# Altium integrated library CM5_library.IntLib: 236 symbols (part 2 of 5)
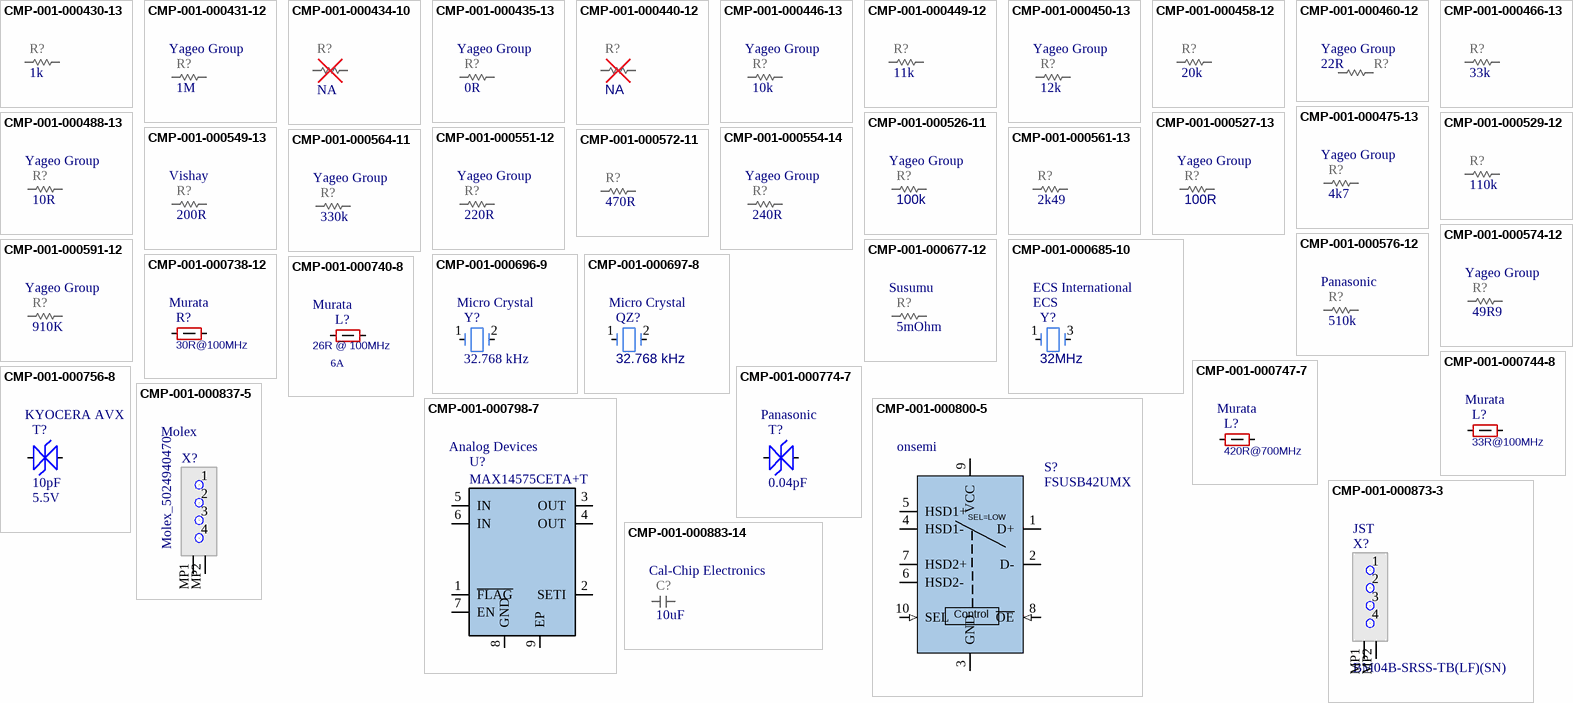
[diagram p13: symbols CMP-001-000430-13 to CMP-001-000883-14]

## CMP-001-000744-8
designator L?, comment value 33R@100MHz  Manufacturer: Murata  (hidden comment: FERRITE_0201_BLM03_33Ohm)
FERRITE; Part Number: BLM03PG330SN1; Manufacturer Part Number: BLM03PG330SN1D; Tolerance: 25%; Sort order: 362; HasBeenBuilt: TBD; System: Discrete; Current: 750mA; Package: 0201; Operating temperature range: -55 ... +125C; ClassName: SMALL; ComponentLink1Description: 1_Datasheet; ComponentLink1URL: https://www.murata.com/en-us/products/productdetail.aspx?cate=luNoiseSupprFilteChipFerriBead&partno=BLM03PG330SN1%23; ComponentLink2Description: 2_Product page; ComponentLink3Description: 3_X-information; ComponentLink4Description: 4_X-information; Creation date: 20200304; Source: Discrete_UN1Q.SchLib; Component Type: Ferrite
footprint IND_0201_UN1Q (Chip Resistor, 0.6x0.3mm, IPC High Density)
pins: 1, 2

## CMP-001-000747-7
designator L?, comment value 420R@700MHz  Manufacturer: Murata  (hidden comment: FERRITE_0201_BLF_700MHz_420Ohm)
FERRITE; Part Number: BLF03JD421GZE; Manufacturer Part Number: BLF03JD421GZED; Tolerance: 25%; Sort order: 362; HasBeenBuilt: False; System: Discrete; Package: 0201; Operating temperature range: -55 ... +125C; ComponentLink1Description: 1_Datasheet; ComponentLink2Description: 2_Product page; ComponentLink3Description: 3_X-information; ComponentLink4Description: 4_X-information; Creation date: 20200304; ClassName: SMALL; Source: Discrete_UN1Q.SchLib; Component Type: Ferrite
footprint IND_0201_UN1Q (Chip Resistor, 0.6x0.3mm, IPC High Density)
pins: 1, 2

## CMP-001-000756-8
designator T?, comment value 10pF  Voltage: 5.5V  Manufacturer: KYOCERA AVX  (hidden comment: TVS_0201_10pF)
ESD Protection  TVS Diodes SMP Diode 0201 5vdc 10 pf <8v clamp@1a; Part Number: GG020105100N2P; Sort order: 402; System: Discrete; Package: 0201; Operating temperature range: -40 ... +85C; ComponentLink1Description: 1_Datasheet; ComponentLink1URL: https://www2.mouser.com/datasheet/2/40/AVX_GiGuard-1101674.pdf; ComponentLink2Description: 2_Product page; ComponentLink3Description: 3_X-information; ComponentLink4Description: 4_X-information; Creation date: 20211207; ClassName: SMALL; Manufacturer Part Number: GG020105100N2P; Component Type: ESD & EMI
footprint TVS_0201_EZAEG (TVS 0201 0.04pF Panasonic EZAEG1A)
pins: 1, 2

## CMP-001-000774-7
designator T?, comment value 0.04pF  Manufacturer: Panasonic  (hidden comment: TVS_0201_004_EZAEG1N)
ESD Protection Panasonic EZAEG1N50AC; Manufacturer Part Number: EZA-EG1N50AC; Voltage: 30V; Sort order: 402; HasBeenBuilt: False; System: Discrete; Part Number: EZAEG1N50AC; Package: 0201; Operating temperature range: -55C ... +125C; Dimensions WxLxH: 0.33 mm x 0.63mm x 0.26mm; ComponentLink1Description: 1_Datasheet; ComponentLink1URL: https://industrial.panasonic.com/ww/products/pt/esd-suppressor/models/EZAEG1N50AC; ComponentLink2Description: 2_Product page; ComponentLink3Description: 3_X-information; ComponentLink4Description: 4_X-information; Creation date: 17102023; ClassName: SMALL; Source: Discrete_UN1Q.SchLib; Component Type: ESD & EMI
footprint TVS_0201_EZAEG (TVS 0201 0.04pF Panasonic EZAEG1A)
pins: 1, 2

## CMP-001-000798-7
designator U?, comment Part Number: MAX14575CETA+T  Manufacturer: Analog Devices  (hidden comment: MAX14575C)
ADJ. CURRENT-LIMITED POWER SWITCH, 2.5A; Manufacturer: Maxim Integrated; System: IC; HasBeenBuilt: SleeveIO_01; Sort order: 457; ClassName: BIG; Dimensions WxLxH: 2.05 mm x 2.05 mm x 0.8 mm; ComponentLink4Description: 4_X-information; Design Item ID: MAX14575C; Operating temperature range: -40 ... +85 °C; ComponentLink3Description: 3_X-information; Package: TDFN8; ComponentLink1URL: https://www.analog.com/media/en/technical-documentation/data-sheets/MAX14575A-MAX14575C.pdf; ComponentLink1Description: 1_Datasheet; ComponentLink2Description: 2_Product page; ComponentLink2URL: https://www.analog.com/en/products/max14575c.html; Creation date: 20211018; Source: IC_UN1Q.SchLib; Manufacturer Part Number: MAX14575CETA+T; Component Type: Power Supply
footprint TDFN8-MAX14575C (TDFN8 for MAX14575C, 2.05mm(L) x 2.05mm(W) x 0.80mm(H))
pins: 1 ~{FLAG}, 2 SETI, 3 OUT, 4 OUT, 5 IN, 6 IN, 7 EN, 8 GND, 9 EP "Exposed PAD"

## CMP-001-000800-5
designator S?, comment Manufacturer: onsemi  (hidden comment: FSUSB42UMX)
USB2.0 Switch; HasBeenBuilt: SleeveIO_01; Sort order: 501; System: IC; ComponentLink1Description: 1_Datasheet; ComponentLink1URL: https://www.onsemi.com/pub/Collateral/FSUSB42-D.PDF; ComponentLink2Description: 2_Product page; ComponentLink2URL: https://www.onsemi.com/products/interfaces/analog-switches/fsusb42; ComponentLink3Description: 3_X-information; ComponentLink4Description: 4_X-information; Creation date: 20210901; Dimensions WxLxH: 1.4x1.8x0.55mm; Manufacturer: ONSEMI; Operating temperature range: -40 ... +85 °C; Package: UMLP10; Part Number: FSUSB42UMX; Design Item ID: FSUSB42UMX; ECCN: EAR99; Source: IC_UN1Q.SchLib; RoHS: RoHS3; Manufacturer Part Number: FSUSB42UMX; Component Type: Integrated Circuit
footprint UMLP10P40_140X180X55 (UMLP 10 pin pitch 0.4)
pins: 1 D+, 2 D-, 3 GND (power), 4 HSD1-, 5 HSD1+, 6 HSD2-, 7 HSD2+, 8 ~{OE} (in), 9 VCC (power), 10 SEL (in)
text: SEL=LOW; Control

## CMP-001-000837-5
designator X?, comment Molex_5024940470  Manufacturer: Molex
PCB Header, 4 Pins, Vertical, 2.00mm Pitch, CLICK-Mate RA; Manufacturer Part Number: 502494-0470; Sort order: 111; System: Connector; Part Number: 5024940470; ClassName: BIG; Operating temperature range: -40 ... +105 °C; ComponentLink1Description: 1_Datasheet; ComponentLink1URL: https://www.molex.com/molex/products/part-detail/pcb_receptacles/5024940470; Creation date: 20240201; Dimensions WxLxH: 6.85x12x7.45; Design Item ID: Molex_5024940470; Source: UUDET_KOMPONENTIT.SchLib; ECCN: EAR99; ComponentLink4Description: 4_X-information; RoHS: RoHS3; ComponentLink3Description: 3_X-information; ComponentLink2Description: 2_Product page; Component Type: Header
footprint Molex_5024940470 (PCB Header, 4 Pins, 2.00mm Pitch RA)
pins: 1, 2, 3, 4, MP1, MP2

## CMP-001-000873-3
designator X?, comment BM04B-SRSS-TB(LF)(SN)  Manufacturer: JST
JST SH Connector, Header, 4 pin, Vertical, Pitch 1.0 mm; Sort order: 111; HasBeenBuilt: Cmod2_01; ClassName: BIG; Operating temperature range: -25 ... +85 °C; ComponentLink1Description: 1_Datasheet; ComponentLink1URL: https://www.jst-mfg.com/product/pdf/eng/eSH.pdf; Part Number: BM04B-SRSS-TB(LF)(SN); Creation date: 20230301; Dimensions WxLxH: 3.6x6.0x6.3mm; System: Connector; Source: UUDET_KOMPONENTIT.SchLib; Design Item ID: SH-Connector_BM04B-SRSS-TB(LF)(SN); ComponentLink2Description: 2_Product page; ComponentLink3Description: 3_X-information; ComponentLink4Description: 4_X-information; Manufacturer Part Number: BM04B-SRSS-TB(LF)(SN); Component Type: Connector
footprint BM04B-SRSS-TB(LF)(SN) (JST SH Connector, 4 pin, Vertical, Pitch 1.0mm)
pins: 1, 2, 3, 4, MP1, MP2

## CMP-001-000883-14
designator C?, comment value 10uF  Manufacturer: Cal-Chip Electronics  (hidden comment: CAP_0402_10u_X6S)
CAP; Part Number: GMC04X6S106M6R3NT; Manufacturer: Cal-Chip Electronics, Inc.; Temperature characteristics: X6S; Voltage: 6.3V; Tolerance: +/-20%; Sort order: 304; HasBeenBuilt: TBD; Alternative component: Allowed; System: RLC; Package: 0402; ComponentLink1Description: 1_Datasheet; ComponentLink2Description: 2_Product page; ComponentLink3Description: 3_X-information; ComponentLink4Description: 4_X-information; Creation date: 26042024; Manufacturer Part Number: GMC04X6S106M6R3NT; Component Type: Capacitor
footprint CAP_0402_H09W07_UN1Q (Chip Capacitor 0402 BIG)
pins: 1, 2

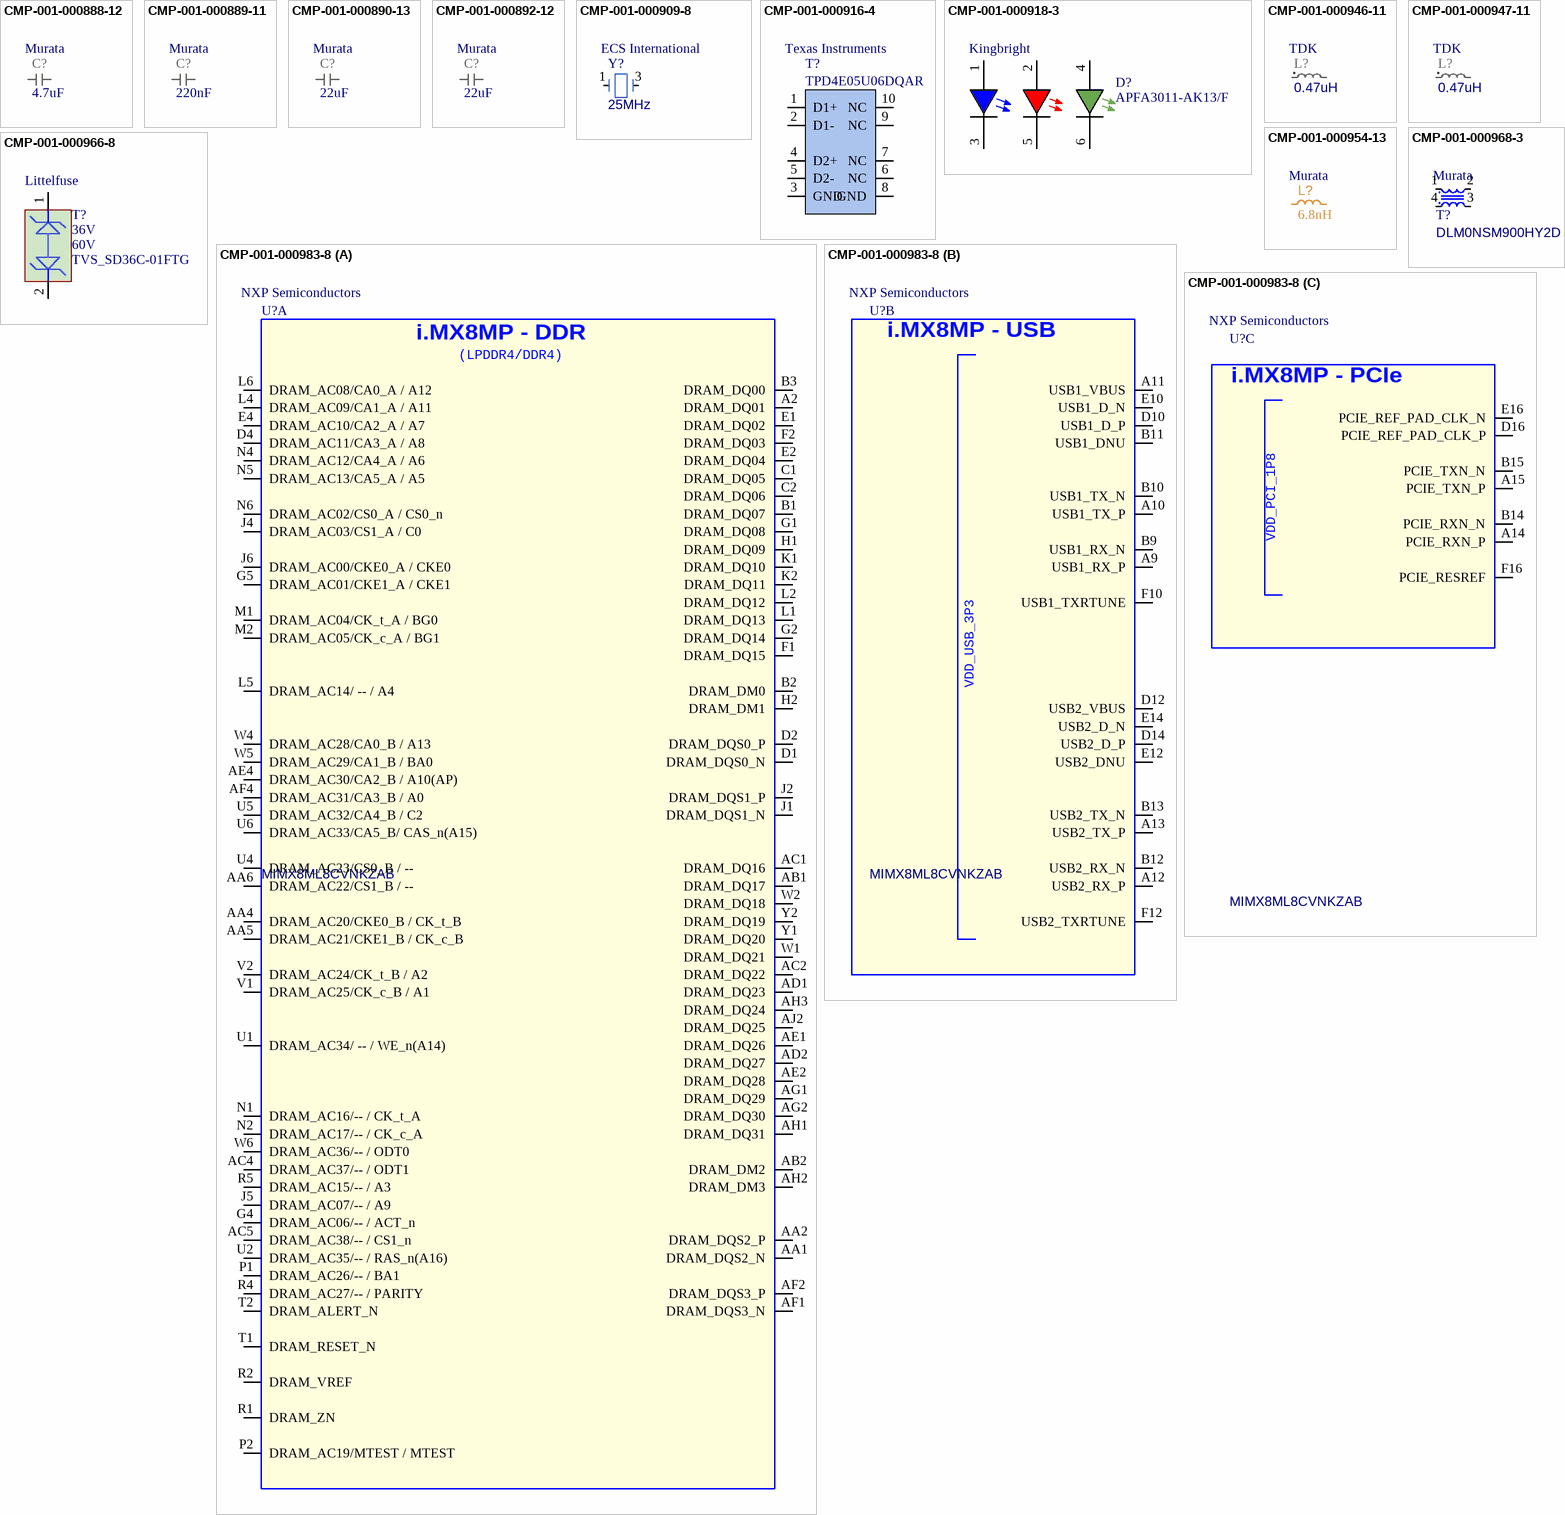
[diagram p2: symbols CMP-001-000888-12 to CMP-001-000983-8]

## CMP-001-000888-12
designator C?, comment value 4.7uF  Manufacturer: Murata  (hidden comment: CAP_0402_4u7_10V_X6S)
CAP; Part Number: GRT155C81A475ME13J; Temperature characteristics: X6S; Voltage: 10V; Tolerance: +/-10%; Sort order: 304; HasBeenBuilt: TBD; Alternative component: Allowed; System: RLC; Package: 0402; ComponentLink1Description: 1_Datasheet; ComponentLink2Description: 2_Product page; ComponentLink3Description: 3_X-information; ComponentLink4Description: 4_X-information; Creation date: 26042024; Manufacturer Part Number: GRT155C81A475ME13J; Component Type: Capacitor
footprint CAP_0402_H09W07_UN1Q (Chip Capacitor 0402 BIG)
pins: 1, 2

## CMP-001-000889-11
designator C?, comment value 220nF  Manufacturer: Murata  (hidden comment: CAP_0201_220n_10V_X6S)
CAP; Part Number: GRM033C81A224KE01D; Temperature characteristics: X6S; Voltage: 10V; Tolerance: +/-20%; Sort order: 302; HasBeenBuilt: TBD; Alternative component: Allowed; System: RLC; Package: 0201; Dimensions WxLxH: 0.35; ComponentLink1Description: 1_Datasheet; ComponentLink2Description: 2_Product page; ComponentLink3Description: 3_X-information; ComponentLink4Description: 4_X-information; Creation date: 26042024; ClassName: SMALL; Manufacturer Part Number: GRM033C81A224KE01D; Component Type: Capacitor
footprint CAP_0201_UN1Q (Chip Capacitor 0201)
pins: 1, 2

## CMP-001-000890-13
designator C?, comment value 22uF  Manufacturer: Murata  (hidden comment: CAP_0603_22u_6.3V_X6S)
CAP; Part Number: GRM188C80J226ME15D; Temperature characteristics: X6S; Tolerance: +/-20%; Sort order: 306; HasBeenBuilt: TBD; Alternative component: Allowed; Voltage: 6.3V; System: RLC; Package: 0603; ComponentLink1Description: 1_Datasheet; ComponentLink2Description: 2_Product page; ComponentLink3Description: 3_X-information; ComponentLink4Description: 4_X-information; Creation date: 26042024; Manufacturer Part Number: GRM188C80J226ME15D; Component Type: Capacitor
footprint CAP_0603_UN1Q (Chip Capacitor 0603)
pins: 1, 2

## CMP-001-000892-12
designator C?, comment value 22uF  Manufacturer: Murata  (hidden comment: CAP_0805_22uF_10V_X7R)
CAP; Part Number: GRM21BZ71A226ME15L; Temperature characteristics: X7R; Tolerance: +/-20%; Sort order: 308; HasBeenBuilt: S3X_ETHIB_1; Alternative component: Allowed; Voltage: 10V; System: RLC; Package: 0805; Operating temperature range: -55 ... +125 °C; ComponentLink1Description: 1_Datasheet; ComponentLink2Description: 2_Product page; ComponentLink3Description: 3_X-information; ComponentLink4Description: 4_X-information; Creation date: 22032024; ECCN: EAR99; RoHS: RoHS3; Manufacturer Part Number: GRM21BZ71A226ME15L; Component Type: Capacitor
footprint CAP_0805_UN1Q (Chip Capacitor 0805)
pins: 1, 2

## CMP-001-000909-8
designator Y?, comment value 25MHz  Manufacturer: ECS International  (hidden comment: XTAL_25M_ECS_2016_4-SMD)
Crystal 25MHz ±10ppm, 10pF; Part Number: ECS-250-10-37B-CTN; Manufacturer: ECS Inc.; Manufacturer Part Number: ECS-250-10-37B-CTN-TR; Tolerance: +/-10ppm; Sort order: 455; HasBeenBuilt: Cmod2_01; System: Discrete; Operating temperature range: -40 ... +85C; Dimensions WxLxH: 2 x 1.6mm x 0.65mm; Creation date: 20230102; ComponentLink1Description: 1_Datasheet; ComponentLink1URL: https://ecsxtal.com/store/pdf/ECX-1637B.pdf; ComponentLink2Description: 2_Product_page; ComponentLink2URL: https://ecsxtal.com/products/crystals/surface-mount-crystals/ecx-1637b/; ComponentLink3Description: 3_X-information; ComponentLink4Description: 4_X-information; ECCN: EAR99; Source: UUDET_KOMPONENTIT.SchLib; RoHS: RoHS3; Component Type: Crystal & Oscillator
footprint XTAL_2016_UN1Q (Murata XTAL 2.0 x 1.6mm)
pins: 1, 2 GND (power) hidden to GND, 3, 4 GND (power) hidden to GND

## CMP-001-000916-4
designator T?, comment Manufacturer: Texas Instruments  (hidden comment: TPD4E05U06DQAR)
4-CH Low-Capacitance ESD Diode; Sort order: 405; HasBeenBuilt: Saluki3_HW_RIB_2; System: IC; ComponentLink1URL: http://www.ti.com/lit/gpn/tpd4e05u06; ComponentLink4Description: 4_X-information; RoHS: RoHS3; Creation date: 20210927; ComponentLink2Description: 2_Product page; ECCN: EAR99; ComponentLink1Description: 1_Datasheet; Package: USON10; ComponentLink3Description: 3_X-information; ComponentLink2URL: https://www.ti.com/product/TPD4E05U06; Part Number: TPD4E05U06DQAR; Dimensions WxLxH: 2.5x1.0x0.55; Operating temperature range: -40... +125 °C; Source: UUDET_KOMPONENTIT.SchLib; Manufacturer Part Number: TPD4E05U06DQAR; Component Type: ESD & EMI
footprint USON10_DQA_TI (USON10)
pins: 1 D1+, 2 D1-, 3 GND, 4 D2+, 5 D2-, 6 NC, 7 NC, 8 GND, 9 NC, 10 NC

## CMP-001-000918-3
designator D?, comment Part Number: APFA3011-AK13/F  Manufacturer: Kingbright  (hidden comment: LED_APFA3011-AK13/F)
LED Tri-Color RGB RA 6-Pin SMD; HasBeenBuilt: CCB30_1; Sort order: 431; System: Discrete; ComponentLink1Description: 1_Datasheet; ComponentLink1URL: https://www.kingbrightusa.com/images/catalog/SPEC/APFA3011-AK13-F.pdf; ComponentLink2Description: 2_Product page; ComponentLink3Description: 3_X-information; ComponentLink4Description: 4_X-information; Creation date: 20230927; Dimensions WxLxH: 3.0 x 1.5 x 1.0 mm; Operating temperature range: -40 .... +85 °C; Package: 0606 (1616metric); Source: UUDET_KOMPONENTIT.SchLib; Manufacturer Part Number: APFA3011-AK13/F; Component Type: LED
footprint LED_APFA3011 (3.0x1.5mm SMD LED)
pins: 1 K, 2 A, 3 A, 4 A, 5 A, 6 A

## CMP-001-000946-11
designator L?, comment value 0.47uH  Manufacturer: TDK  (hidden comment: IND_VLS2016_0u47)
IND, Low DCR shielded; Part Number: VLS201612HBX-R47M-1; Sort order: 348; System: RLC; Package: 2016; Dimensions WxLxH: 2.0 x 1.6 x 1.2mm; ClassName: BIG; ComponentLink1Description: 1_Datasheet; ComponentLink1URL: https://product.tdk.com/en/system/files?file=dam/doc/product/inductor/inductor/smd/catalog/inductor_commercial_power_vls201612hbx-1_en.pdf; Operating temperature range: -40 ... +105 °C; Creation date: 09022024; Source: UUDET_KOMPONENTIT.SchLib; ComponentLink2Description: 2_Product page; ComponentLink3Description: 3_X-information; ComponentLink4Description: 4_X-information; Manufacturer Part Number: VLS201612HBX-R47M-1; Component Type: Inductor
footprint IND_VLS2016
pins: 1, 2

## CMP-001-000947-11
designator L?, comment value 0.47uH  Manufacturer: TDK  (hidden comment: IND_VLS2520_0u47)
IND, Low DCR shielded; Part Number: VLS252012HBX-R47M-1; Sort order: 348; System: RLC; Package: 2520; Dimensions WxLxH: 2.5 x 2.0 x 1.2mm; ClassName: BIG; ComponentLink1Description: 1_Datasheet; ComponentLink1URL: https://product.tdk.com/en/system/files?file=dam/doc/product/inductor/inductor/smd/catalog/inductor_commercial_power_vls252012hbx-1_en.pdf; Operating temperature range: -40 ... +105 °C; Creation date: 09022024; Source: UUDET_KOMPONENTIT.SchLib; ComponentLink2Description: 2_Product page; ComponentLink3Description: 3_X-information; ComponentLink4Description: 4_X-information; Manufacturer Part Number: VLS252012HBX-R47M-1; Component Type: Inductor
footprint IND_VLS2520
pins: 1, 2

## CMP-001-000954-13
designator L?, comment 6.8nH  Manufacturer: Murata
IND_RF_MATCHING, WIREWOUND; Part Number: LQW15AN6N8J00#; Manufacturer Part Number: LQW15AN6N8J00; Tolerance: +/- 5%; System: RLC; HasBeenBuilt: TBD; Sort order: 206; Remark: RF matching, use part number; ComponentLink3Description: 3_X-information; RoHS: RoHS3; ComponentLink1URL: https://www.murata.com/en-us/products/productdetail?partno=LQW15AN6N8J00%23; Source: UUDET_KOMPONENTIT.SchLib; Creation date: 20240318; ComponentLink2Description: 2_Product page; Package: 0402; ComponentLink1Description: 1_Datasheet; Value: 6.8nH; ComponentLink4Description: 4_X-information; ClassName: SMALL; Operating temperature range: -55 ... +125C; Component Type: Inductor
footprint IND_0402_UN1Q (Chip Resistor, 1.0x0.5mm)
pins: 1, 2

## CMP-001-000966-8
designator T?, comment TVS_SD36C-01FTG  value 36V  Voltage: 60V  Manufacturer: Littelfuse
450 W bidirectional TVS diode, 36 V / 60 V; HasBeenBuilt: Saluki3_HW_SB_2; Sort order: 402; System: IC; ComponentLink1Description: 1_Datasheet; ComponentLink1URL: https://www.littelfuse.com/assetdocs/tvs-diode-array-spa-sd-c-datasheet?assetguid=b682d4fa-3733-4cd6-9f7f-7cf1a490030b; ComponentLink2Description: 2_Product page; ComponentLink2URL: https://www.littelfuse.com/products/tvs-diode-arrays/general-purpose-esd-protection/sdc/sd36c_01ftg.aspx; Part Number: SD36C-01FTG; ClassName: SMALL; Creation date: 20230529; Dimensions WxLxH: 1.45 x 1.90 x 1.14 mm; Package: SOD323; ECCN: EAR99; ComponentLink3Description: 3_X-information; ComponentLink4Description: 4_X-information; Source: UUDET_KOMPONENTIT.SchLib; Operating temperature range: -40 .... +125 °C (Note: derating); RoHS: RoHS3; Manufacturer Part Number: SD36C-01FTG; Component Type: ESD & EMI
footprint SOD-323
pins: 1, 2

## CMP-001-000968-3
designator T?, comment Part Number: DLM0NSM900HY2D  Manufacturer: Murata  (hidden comment: EMI_Filter_DLM0NSM900HY2)
EMI Filter 90Ω 100MHz 100mA 5V; Sort order: 441; HasBeenBuilt: Cmod2_01; System: Discrete; Package: 0.85x0.65x0.50; Operating temperature range: -40 ... +85 °C; Dimensions WxLxH: 0.85x0.65x0.50; ComponentLink1Description: 1_Datasheet; ComponentLink1URL: https://www.murata.com/en-us/api/pdfdownloadapi?cate=cgsubChipCommoModeChokeCoil&partno=DLM0NSM900HY2%23; ComponentLink2Description: 2_Product page; ComponentLink2URL: https://www.murata.com/products/productdetail?partno=DLM0NSM900HY2%23; ComponentLink3Description: 3_X-information; ComponentLink4Description: 4_X-information; Creation date: 20230103; Source: UUDET_KOMPONENTIT.SchLib; Manufacturer Part Number: DLM0NSM900HY2D; Component Type: ESD & EMI
footprint DLM0NSxxxxHY2_Murata (SMD 0.85x0.65x0.50mm)
pins: 1, 2, 3, 4

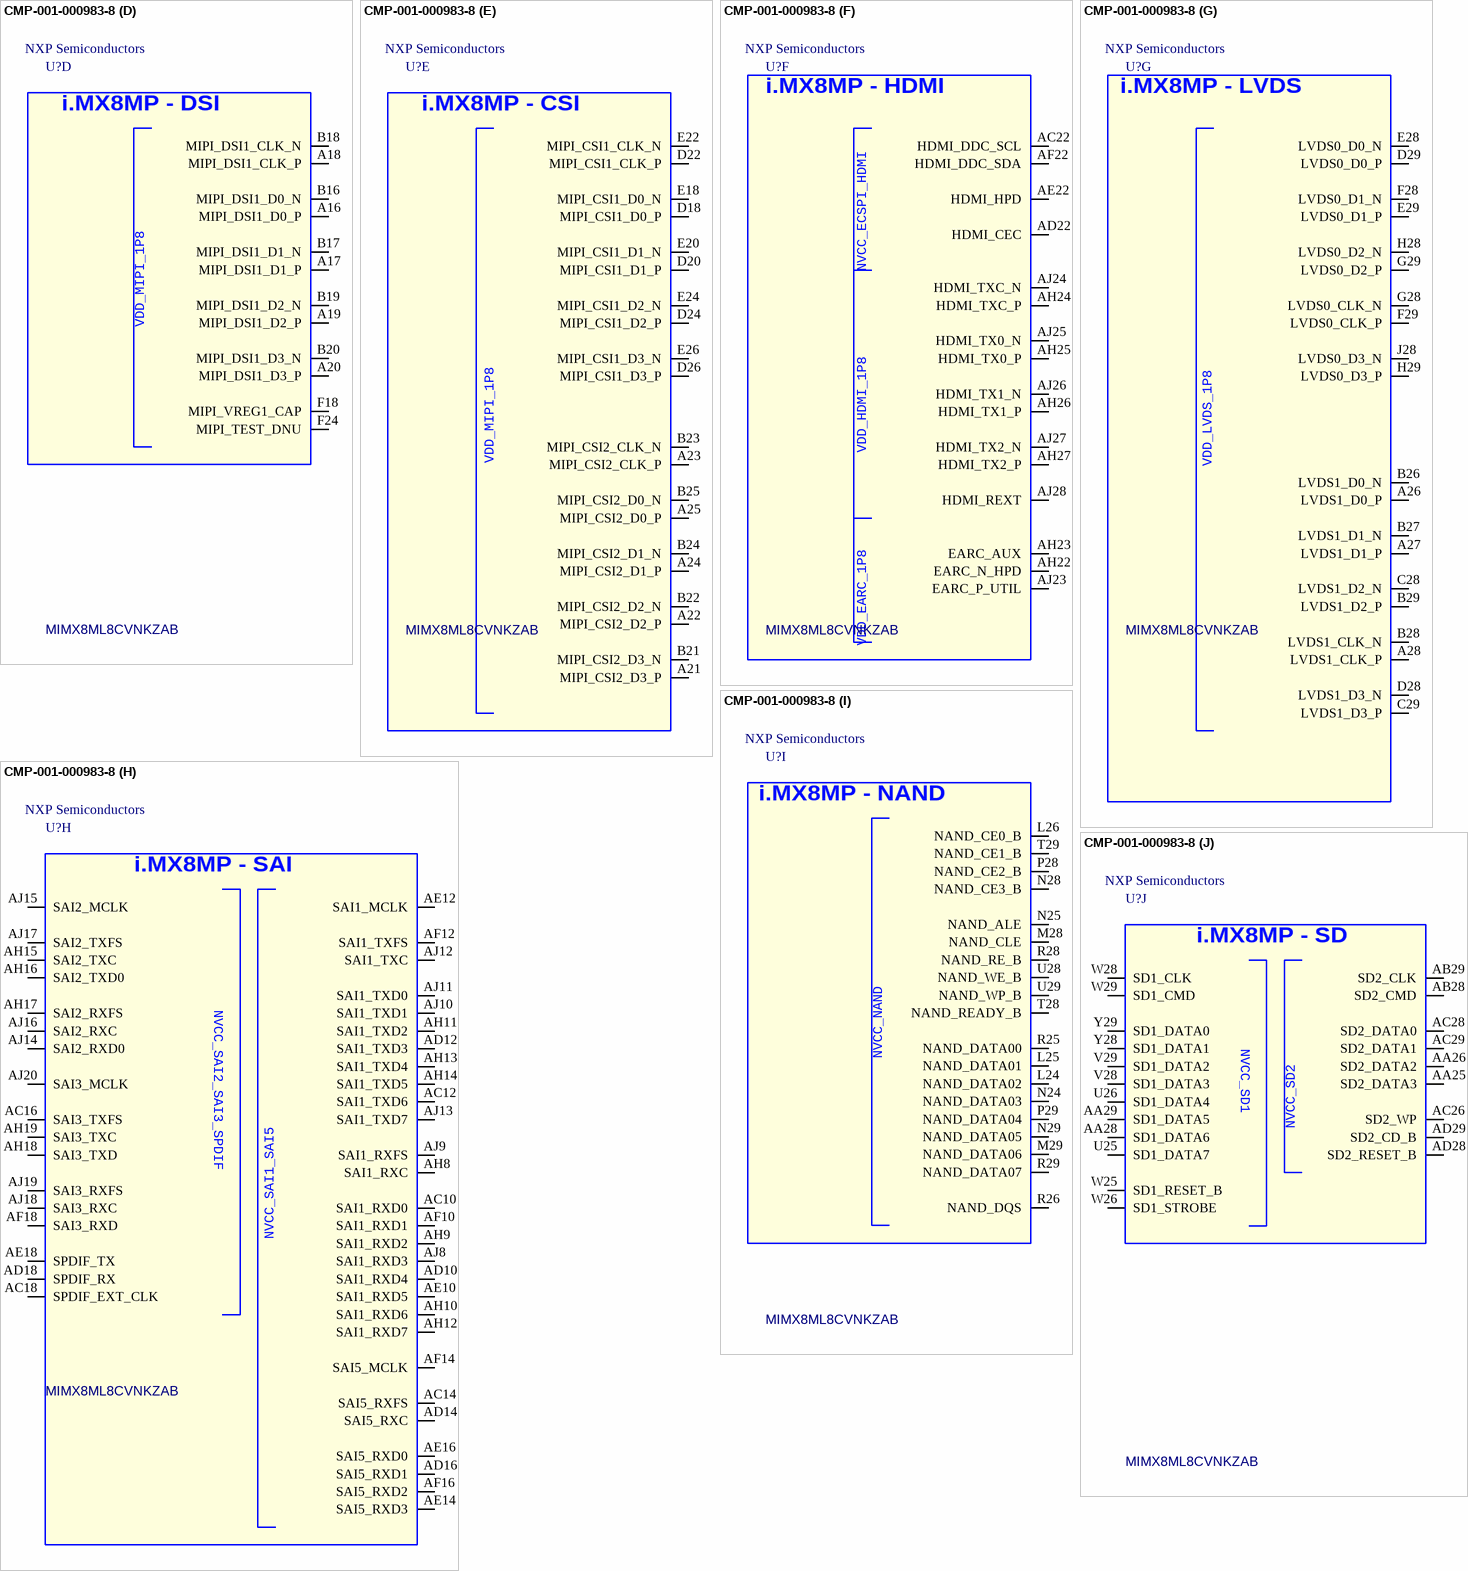
[diagram p3: symbol CMP-001-000983-8]

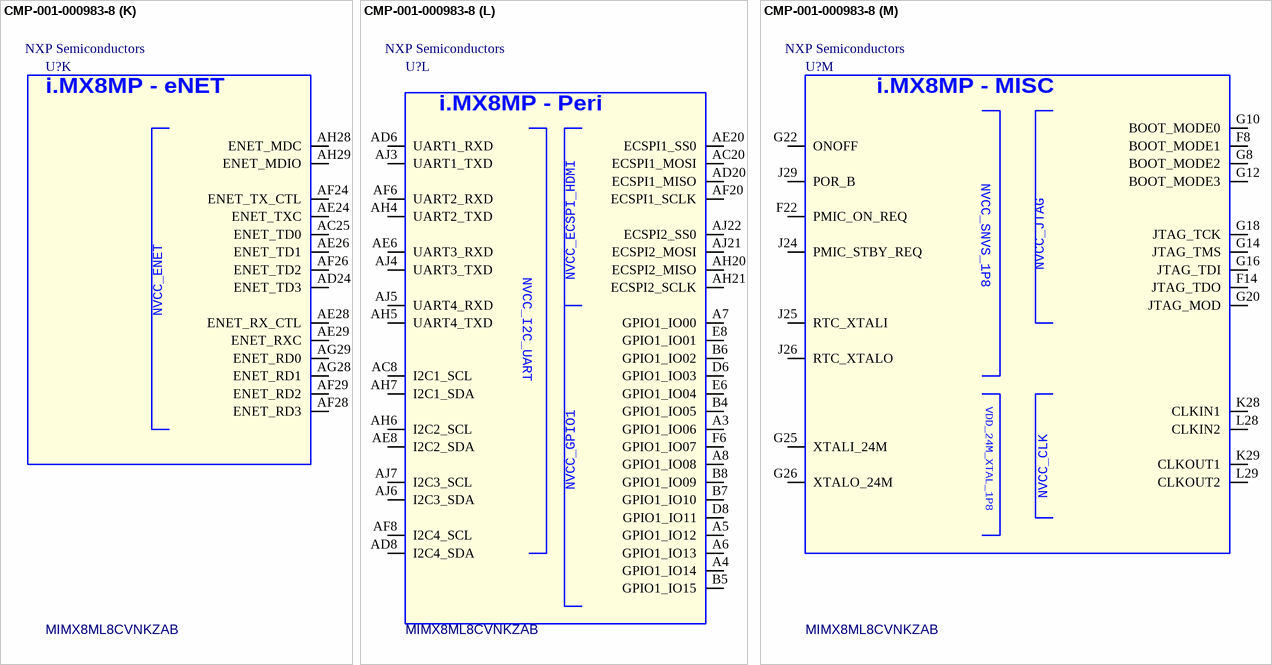
[diagram p4: symbol CMP-001-000983-8]

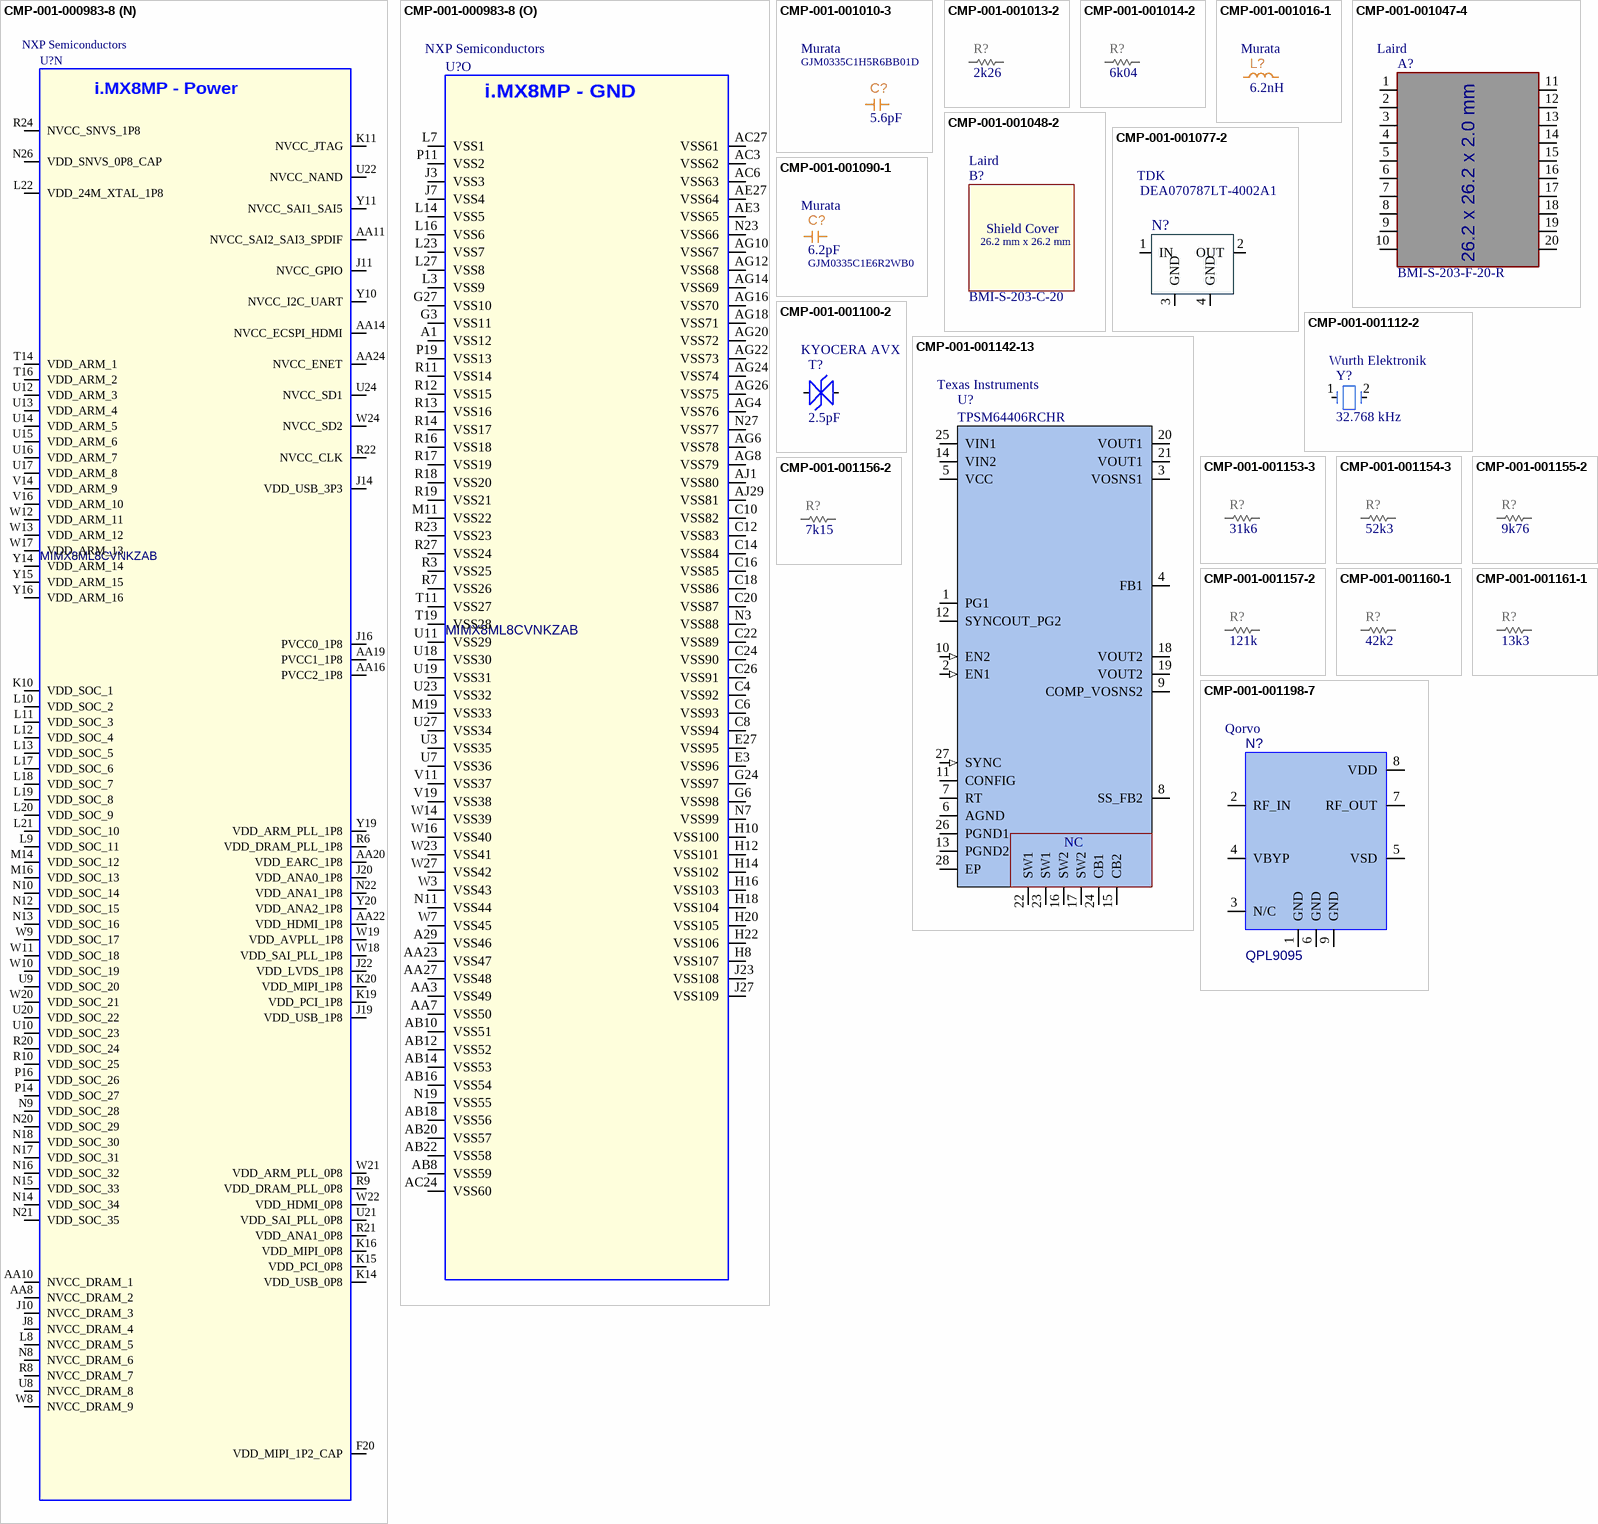
[diagram p5: symbols CMP-001-000983-8 to CMP-001-001198-7]

## CMP-001-000983-8
designator U?, comment Manufacturer: NXP Semiconductors  (hidden comment: MIMX8ML8CVNKZAB)
CPU QUAD CORTEX A53+M4 1.6GHZ BGA548 Industrial; Sort order: 501; System: IC; ComponentLink1Description: 1_Datasheet; ComponentLink1URL: https://www.nxp.com/part/MIMX8ML8CVNKZAB#/; ComponentLink2Description: 2_Product page; ComponentLink3Description: 3_X-information; ComponentLink4Description: 4_X-information; Creation date: 20240524; Dimensions WxLxH: 15 x 15 x 1.33mm; Manufacturer: NXP SEMICONDUCTORS; Operating temperature range: -40... +105 °C; Package: FCBGA548; Part Number: MIMX8ML8CVNKZAB; ClassName: BIG; Source: UUDET_KOMPONENTIT.SchLib; Design Item ID: MIMX8ML8CVNKZAB; Manufacturer Part Number: MIMX8ML8CVNKZAB; Component Type: Processor
footprint BGA548C50P29X29_1500X1500X148 (BGA548)
part A pins: A2 DRAM_DQ01, AA1 DRAM_DQS2_N, AA2 DRAM_DQS2_P, AA4 DRAM_AC20/CKE0_B / CK_t_B, AA5 DRAM_AC21/CKE1_B / CK_c_B, AA6 DRAM_AC22/CS1_B / --, AB1 DRAM_DQ17, AB2 DRAM_DM2, AC1 DRAM_DQ16, AC2 DRAM_DQ22, AC4 DRAM_AC37/-- / ODT1, AC5 DRAM_AC38/-- / CS1_n, AD1 DRAM_DQ23, AD2 DRAM_DQ27, AE1 DRAM_DQ26, AE2 DRAM_DQ28, AE4 DRAM_AC30/CA2_B / A10(AP), AF1 DRAM_DQS3_N, AF2 DRAM_DQS3_P, AF4 DRAM_AC31/CA3_B / A0, AG1 DRAM_DQ29, AG2 DRAM_DQ30, AH1 DRAM_DQ31, AH2 DRAM_DM3, AH3 DRAM_DQ24, AJ2 DRAM_DQ25, B1 DRAM_DQ07, B2 DRAM_DM0, B3 DRAM_DQ00, C1 DRAM_DQ05, C2 DRAM_DQ06, D1 DRAM_DQS0_N, D2 DRAM_DQS0_P, D4 DRAM_AC11/CA3_A / A8, E1 DRAM_DQ02, E2 DRAM_DQ04, E4 DRAM_AC10/CA2_A / A7, F1 DRAM_DQ15, F2 DRAM_DQ03, G1 DRAM_DQ08, G2 DRAM_DQ14, G4 DRAM_AC06/-- / ACT_n, G5 DRAM_AC01/CKE1_A / CKE1, H1 DRAM_DQ09, H2 DRAM_DM1, J1 DRAM_DQS1_N, J2 DRAM_DQS1_P, J4 DRAM_AC03/CS1_A / C0, J5 DRAM_AC07/-- / A9, J6 DRAM_AC00/CKE0_A / CKE0, K1 DRAM_DQ10, K2 DRAM_DQ11, L1 DRAM_DQ13, L2 DRAM_DQ12, L4 DRAM_AC09/CA1_A / A11, L5 DRAM_AC14/ -- / A4, L6 DRAM_AC08/CA0_A / A12, M1 DRAM_AC04/CK_t_A / BG0, M2 DRAM_AC05/CK_c_A / BG1, N1 DRAM_AC16/-- / CK_t_A, N2 DRAM_AC17/-- / CK_c_A, N4 DRAM_AC12/CA4_A / A6, N5 DRAM_AC13/CA5_A / A5, N6 DRAM_AC02/CS0_A / CS0_n, P1 DRAM_AC26/-- / BA1, P2 DRAM_AC19/MTEST / MTEST, R1 DRAM_ZN, R2 DRAM_VREF, R4 DRAM_AC27/-- / PARITY, R5 DRAM_AC15/-- / A3, T1 DRAM_RESET_N, T2 DRAM_ALERT_N, U1 DRAM_AC34/ -- / WE_n(A14), U2 DRAM_AC35/-- / RAS_n(A16), U4 DRAM_AC23/CS0_B / --, U5 DRAM_AC32/CA4_B / C2, U6 DRAM_AC33/CA5_B/ CAS_n(A15), V1 DRAM_AC25/CK_c_B / A1, V2 DRAM_AC24/CK_t_B / A2, W1 DRAM_DQ21, W2 DRAM_DQ18, W4 DRAM_AC28/CA0_B / A13, W5 DRAM_AC29/CA1_B / BA0, W6 DRAM_AC36/-- / ODT0, Y1 DRAM_DQ20, Y2 DRAM_DQ19
part B pins: A9 USB1_RX_P, A10 USB1_TX_P, A11 USB1_VBUS, A12 USB2_RX_P, A13 USB2_TX_P, B9 USB1_RX_N, B10 USB1_TX_N, B11 USB1_DNU, B12 USB2_RX_N, B13 USB2_TX_N, D10 USB1_D_P, D12 USB2_VBUS, D14 USB2_D_P, E10 USB1_D_N, E12 USB2_DNU, E14 USB2_D_N, F10 USB1_TXRTUNE, F12 USB2_TXRTUNE
part C pins: A14 PCIE_RXN_P, A15 PCIE_TXN_P, B14 PCIE_RXN_N, B15 PCIE_TXN_N, D16 PCIE_REF_PAD_CLK_P, E16 PCIE_REF_PAD_CLK_N, F16 PCIE_RESREF
part D pins: A16 MIPI_DSI1_D0_P, A17 MIPI_DSI1_D1_P, A18 MIPI_DSI1_CLK_P, A19 MIPI_DSI1_D2_P, A20 MIPI_DSI1_D3_P, B16 MIPI_DSI1_D0_N, B17 MIPI_DSI1_D1_N, B18 MIPI_DSI1_CLK_N, B19 MIPI_DSI1_D2_N, B20 MIPI_DSI1_D3_N, F18 MIPI_VREG1_CAP, F24 MIPI_TEST_DNU
part E pins: A21 MIPI_CSI2_D3_P, A22 MIPI_CSI2_D2_P, A23 MIPI_CSI2_CLK_P, A24 MIPI_CSI2_D1_P, A25 MIPI_CSI2_D0_P, B21 MIPI_CSI2_D3_N, B22 MIPI_CSI2_D2_N, B23 MIPI_CSI2_CLK_N, B24 MIPI_CSI2_D1_N, B25 MIPI_CSI2_D0_N, D18 MIPI_CSI1_D0_P, D20 MIPI_CSI1_D1_P, D22 MIPI_CSI1_CLK_P, D24 MIPI_CSI1_D2_P, D26 MIPI_CSI1_D3_P, E18 MIPI_CSI1_D0_N, E20 MIPI_CSI1_D1_N, E22 MIPI_CSI1_CLK_N, E24 MIPI_CSI1_D2_N, E26 MIPI_CSI1_D3_N
part F pins: AC22 HDMI_DDC_SCL, AD22 HDMI_CEC, AE22 HDMI_HPD, AF22 HDMI_DDC_SDA, AH22 EARC_N_HPD, AH23 EARC_AUX, AH24 HDMI_TXC_P, AH25 HDMI_TX0_P, AH26 HDMI_TX1_P, AH27 HDMI_TX2_P, AJ23 EARC_P_UTIL, AJ24 HDMI_TXC_N, AJ25 HDMI_TX0_N, AJ26 HDMI_TX1_N, AJ27 HDMI_TX2_N, AJ28 HDMI_REXT
part G pins: A26 LVDS1_D0_P, A27 LVDS1_D1_P, A28 LVDS1_CLK_P, B26 LVDS1_D0_N, B27 LVDS1_D1_N, B28 LVDS1_CLK_N, B29 LVDS1_D2_P, C28 LVDS1_D2_N, C29 LVDS1_D3_P, D28 LVDS1_D3_N, D29 LVDS0_D0_P, E28 LVDS0_D0_N, E29 LVDS0_D1_P, F28 LVDS0_D1_N, F29 LVDS0_CLK_P, G28 LVDS0_CLK_N, G29 LVDS0_D2_P, H28 LVDS0_D2_N, H29 LVDS0_D3_P, J28 LVDS0_D3_N
part H pins: AC10 SAI1_RXD0, AC12 SAI1_TXD6, AC14 SAI5_RXFS, AC16 SAI3_TXFS, AC18 SPDIF_EXT_CLK, AD10 SAI1_RXD4, AD12 SAI1_TXD3, AD14 SAI5_RXC, AD16 SAI5_RXD1, AD18 SPDIF_RX, AE10 SAI1_RXD5, AE12 SAI1_MCLK, AE14 SAI5_RXD3, AE16 SAI5_RXD0, AE18 SPDIF_TX, AF10 SAI1_RXD1, AF12 SAI1_TXFS, AF14 SAI5_MCLK, AF16 SAI5_RXD2, AF18 SAI3_RXD, AH8 SAI1_RXC, AH9 SAI1_RXD2, AH10 SAI1_RXD6, AH11 SAI1_TXD2, AH12 SAI1_RXD7, AH13 SAI1_TXD4, AH14 SAI1_TXD5, AH15 SAI2_TXC, AH16 SAI2_TXD0, AH17 SAI2_RXFS, AH18 SAI3_TXD, AH19 SAI3_TXC, AJ8 SAI1_RXD3, AJ9 SAI1_RXFS, AJ10 SAI1_TXD1, AJ11 SAI1_TXD0, AJ12 SAI1_TXC, AJ13 SAI1_TXD7, AJ14 SAI2_RXD0, AJ15 SAI2_MCLK, AJ16 SAI2_RXC, AJ17 SAI2_TXFS, AJ18 SAI3_RXC, AJ19 SAI3_RXFS, AJ20 SAI3_MCLK
part I pins: L24 NAND_DATA02, L25 NAND_DATA01, L26 NAND_CE0_B, M28 NAND_CLE, M29 NAND_DATA06, N24 NAND_DATA03, N25 NAND_ALE, N28 NAND_CE3_B, N29 NAND_DATA05, P28 NAND_CE2_B, P29 NAND_DATA04, R25 NAND_DATA00, R26 NAND_DQS, R28 NAND_RE_B, R29 NAND_DATA07, T28 NAND_READY_B, T29 NAND_CE1_B, U28 NAND_WE_B, U29 NAND_WP_B
part J pins: AA25 SD2_DATA3, AA26 SD2_DATA2, AA28 SD1_DATA6, AA29 SD1_DATA5, AB28 SD2_CMD, AB29 SD2_CLK, AC26 SD2_WP, AC28 SD2_DATA0, AC29 SD2_DATA1, AD28 SD2_RESET_B, AD29 SD2_CD_B, U25 SD1_DATA7, U26 SD1_DATA4, V28 SD1_DATA3, V29 SD1_DATA2, W25 SD1_RESET_B, W26 SD1_STROBE, W28 SD1_CLK, W29 SD1_CMD, Y28 SD1_DATA1, Y29 SD1_DATA0
part K pins: AC25 ENET_TD0, AD24 ENET_TD3, AE24 ENET_TXC, AE26 ENET_TD1, AE28 ENET_RX_CTL, AE29 ENET_RXC, AF24 ENET_TX_CTL, AF26 ENET_TD2, AF28 ENET_RD3, AF29 ENET_RD2, AG28 ENET_RD1, AG29 ENET_RD0, AH28 ENET_MDC, AH29 ENET_MDIO
part L pins: A3 GPIO1_IO06, A4 GPIO1_IO14, A5 GPIO1_IO12, A6 GPIO1_IO13, A7 GPIO1_IO00, A8 GPIO1_IO08, AC8 I2C1_SCL, AC20 ECSPI1_MOSI, AD6 UART1_RXD, AD8 I2C4_SDA, AD20 ECSPI1_MISO, AE6 UART3_RXD, AE8 I2C2_SDA, AE20 ECSPI1_SS0, AF6 UART2_RXD, AF8 I2C4_SCL, AF20 ECSPI1_SCLK, AH4 UART2_TXD, AH5 UART4_TXD, AH6 I2C2_SCL, AH7 I2C1_SDA, AH20 ECSPI2_MISO, AH21 ECSPI2_SCLK, AJ3 UART1_TXD, AJ4 UART3_TXD, AJ5 UART4_RXD, AJ6 I2C3_SDA, AJ7 I2C3_SCL, AJ21 ECSPI2_MOSI, AJ22 ECSPI2_SS0, B4 GPIO1_IO05, B5 GPIO1_IO15, B6 GPIO1_IO02, B7 GPIO1_IO10, B8 GPIO1_IO09, D6 GPIO1_IO03, D8 GPIO1_IO11, E6 GPIO1_IO04, E8 GPIO1_IO01, F6 GPIO1_IO07
part M pins: F8 BOOT_MODE1, F14 JTAG_TDO, F22 PMIC_ON_REQ, G8 BOOT_MODE2, G10 BOOT_MODE0, G12 BOOT_MODE3, G14 JTAG_TMS, G16 JTAG_TDI, G18 JTAG_TCK, G20 JTAG_MOD, G22 ONOFF, G25 XTALI_24M, G26 XTALO_24M, J24 PMIC_STBY_REQ, J25 RTC_XTALI, J26 RTC_XTALO, J29 POR_B, K28 CLKIN1, K29 CLKOUT1, L28 CLKIN2, L29 CLKOUT2
part N pins: AA8 NVCC_DRAM_2 (power), AA10 NVCC_DRAM_1 (power), AA11 NVCC_SAI2_SAI3_SPDIF (power), AA14 NVCC_ECSPI_HDMI (power), AA16 PVCC2_1P8 (power), AA19 PVCC1_1P8 (power), AA20 VDD_EARC_1P8 (power), AA22 VDD_HDMI_1P8 (power), AA24 NVCC_ENET (power), F20 VDD_MIPI_1P2_CAP (power), J8 NVCC_DRAM_4 (power), J10 NVCC_DRAM_3 (power), J11 NVCC_GPIO (power), J14 VDD_USB_3P3, J16 PVCC0_1P8 (power), J19 VDD_USB_1P8, J20 VDD_ANA0_1P8 (power), J22 VDD_LVDS_1P8 (power), K10 VDD_SOC_1 (power), K11 NVCC_JTAG (power), K14 VDD_USB_0P8, K15 VDD_PCI_0P8 (power), K16 VDD_MIPI_0P8 (power), K19 VDD_PCI_1P8 (power), K20 VDD_MIPI_1P8 (power), L8 NVCC_DRAM_5 (power), L9 VDD_SOC_11 (power), L10 VDD_SOC_2 (power), L11 VDD_SOC_3 (power), L12 VDD_SOC_4 (power), L13 VDD_SOC_5 (power), L17 VDD_SOC_6 (power), L18 VDD_SOC_7 (power), L19 VDD_SOC_8 (power), L20 VDD_SOC_9 (power), L21 VDD_SOC_10 (power), L22 VDD_24M_XTAL_1P8 (power), M14 VDD_SOC_12 (power), M16 VDD_SOC_13 (power), N8 NVCC_DRAM_6 (power), N9 VDD_SOC_28 (power), N10 VDD_SOC_14 (power), N12 VDD_SOC_15 (power), N13 VDD_SOC_16 (power), N14 VDD_SOC_34 (power), N15 VDD_SOC_33 (power), N16 VDD_SOC_32 (power), N17 VDD_SOC_31 (power), N18 VDD_SOC_30 (power), N20 VDD_SOC_29 (power), N21 VDD_SOC_35 (power), N22 VDD_ANA1_1P8 (power), N26 VDD_SNVS_0P8_CAP (power), P14 VDD_SOC_27 (power), P16 VDD_SOC_26 (power), R6 VDD_DRAM_PLL_1P8 (power), R8 NVCC_DRAM_7 (power), R9 VDD_DRAM_PLL_0P8 (power), R10 VDD_SOC_25 (power), R20 VDD_SOC_24 (power), R21 VDD_ANA1_0P8 (power), R22 NVCC_CLK (power), R24 NVCC_SNVS_1P8 (power), T14 VDD_ARM_1 (power), T16 VDD_ARM_2 (power), U8 NVCC_DRAM_8 (power), U9 VDD_SOC_20 (power), U10 VDD_SOC_23 (power), U12 VDD_ARM_3 (power), U13 VDD_ARM_4 (power), U14 VDD_ARM_5 (power), U15 VDD_ARM_6 (power), U16 VDD_ARM_7 (power), U17 VDD_ARM_8 (power), U20 VDD_SOC_22 (power), U21 VDD_SAI_PLL_0P8 (power), U22 NVCC_NAND (power), U24 NVCC_SD1 (power), V14 VDD_ARM_9 (power), V16 VDD_ARM_10 (power), W8 NVCC_DRAM_9 (power), W9 VDD_SOC_17 (power), W10 VDD_SOC_19 (power), W11 VDD_SOC_18 (power), W12 VDD_ARM_11 (power), W13 VDD_ARM_12 (power), W17 VDD_ARM_13 (power), W18 VDD_SAI_PLL_1P8 (power), W19 VDD_AVPLL_1P8 (power), W20 VDD_SOC_21 (power), W21 VDD_ARM_PLL_0P8 (power), W22 VDD_HDMI_0P8 (power), W24 NVCC_SD2 (power), Y10 NVCC_I2C_UART (power), Y11 NVCC_SAI1_SAI5 (power), Y14 VDD_ARM_14 (power), Y15 VDD_ARM_15 (power), Y16 VDD_ARM_16 (power), Y19 VDD_ARM_PLL_1P8 (power), Y20 VDD_ANA2_1P8 (power)
part O pins: A1 VSS12 (power), A29 VSS46 (power), AA3 VSS49 (power), AA7 VSS50 (power), AA23 VSS47 (power), AA27 VSS48 (power), AB8 VSS59 (power), AB10 VSS51 (power), AB12 VSS52 (power), AB14 VSS53 (power), AB16 VSS54 (power), AB18 VSS56 (power), AB20 VSS57 (power), AB22 VSS58 (power), AC3 VSS62 (power), AC6 VSS63 (power), AC24 VSS60 (power), AC27 VSS61 (power), AE3 VSS65 (power), AE27 VSS64 (power), AG4 VSS76 (power), AG6 VSS78 (power), AG8 VSS79 (power), AG10 VSS67 (power), AG12 VSS68 (power), AG14 VSS69 (power), AG16 VSS70 (power), AG18 VSS71 (power), AG20 VSS72 (power), AG22 VSS73 (power), AG24 VSS74 (power), AG26 VSS75 (power), AJ1 VSS80 (power), AJ29 VSS81 (power), C4 VSS92 (power), C6 VSS93 (power), C8 VSS94 (power), C10 VSS82 (power), C12 VSS83 (power), C14 VSS84 (power), C16 VSS85 (power), C18 VSS86 (power), C20 VSS87 (power), C22 VSS89 (power), C24 VSS90 (power), C26 VSS91 (power), E3 VSS96 (power), E27 VSS95 (power), G3 VSS11 (power), G6 VSS98 (power), G24 VSS97 (power), G27 VSS10 (power), H8 VSS107 (power), H10 VSS100 (power), H12 VSS101 (power), H14 VSS102 (power), H16 VSS103 (power), H18 VSS104 (power), H20 VSS105 (power), H22 VSS106 (power), J3 VSS3 (power), J7 VSS4 (power), J23 VSS108 (power), J27 VSS109 (power), L3 VSS9 (power), L7 VSS1 (power), L14 VSS5 (power), L16 VSS6 (power), L23 VSS7 (power), L27 VSS8 (power), M11 VSS22 (power), M19 VSS33 (power), N3 VSS88 (power), N7 VSS99 (power), N11 VSS44 (power), N19 VSS55 (power), N23 VSS66 (power), N27 VSS77 (power), P11 VSS2 (power), P19 VSS13 (power), R3 VSS25 (power), R7 VSS26 (power), R11 VSS14 (power), R12 VSS15 (power), R13 VSS16 (power), R14 VSS17 (power), R16 VSS18 (power), R17 VSS19 (power), R18 VSS20 (power), R19 VSS21 (power), R23 VSS23 (power), R27 VSS24 (power), T11 VSS27 (power), T19 VSS28 (power), U3 VSS35 (power), U7 VSS36 (power), U11 VSS29 (power), U18 VSS30 (power), U19 VSS31 (power), U23 VSS32 (power), U27 VSS34 (power), V11 VSS37 (power), V19 VSS38 (power), W3 VSS43 (power), W7 VSS45 (power), W14 VSS39 (power), W16 VSS40 (power), W23 VSS41 (power), W27 VSS42 (power)
part A text: i.MX8MP - DDR; (LPDDR4/DDR4)
part B text: i.MX8MP - USB
part C text: i.MX8MP - PCIe
part D text: i.MX8MP - DSI
part E text: i.MX8MP - CSI
part F text: i.MX8MP - HDMI
part G text: i.MX8MP - LVDS
part H text: i.MX8MP - SAI
part I text: i.MX8MP - NAND
part J text: i.MX8MP - SD
part K text: i.MX8MP - eNET
part L text: i.MX8MP - Peri; NVCC_GPIO1
part M text: i.MX8MP - MISC
part N text: i.MX8MP - Power
part O text: i.MX8MP - GND

## CMP-001-001010-3
designator C?, comment value 5.6pF  Part Number: GJM0335C1H5R6BB01D  Manufacturer: Murata  (hidden comment: CAP_0201_5p6_RF_MATCHING)
CAP_RF_MATCHING; Sort order: 202; Tolerance: +/- 0.1 pF; Temperature characteristics: C0G; System: RLC; HasBeenBuilt: TBD; Voltage: 50V; Remark: RF matching, use part number; Operating temperature range: -55 ... +125C; ComponentLink4Description: 4_X-information; Creation date: 20250116; Package: 0201; ComponentLink2Description: 2_Product page; ComponentLink3Description: 3_X-information; ComponentLink1Description: 1_Datasheet; ClassName: SMALL; Manufacturer Part Number: GJM0335C1H5R6BB01D; Component Type: Capacitor
footprint CAP_0201_UN1Q (Chip Capacitor 0201)
pins: 1, 2

## CMP-001-001013-2
designator R?, comment value 2k26  (hidden comment: RES_0201_2k26)
RES; Manufacturer: YAGEO; Part Number: RC0201FR-072K26L; Power Rating: 1/20W; Tolerance: 1%; Sort order: 322; Alternative component: Allowed; HasBeenBuilt: TBD; System: RLC; ComponentLink4Description: 4_X-information; ComponentLink1Description: 1_Datasheet; Package: 0201; ComponentLink2Description: 2_Product page; Creation date: 20250117; Source: RLC_UN1Q.SchLib; ComponentLink3Description: 3_X-information; ClassName: SMALL; Component Type: Resistor
footprint RES_0201_UN1Q (Chip Resistor, 0.6x0.3mm)
pins: 1, 2

## CMP-001-001014-2
designator R?, comment value 6k04  (hidden comment: RES_0201_6k04)
RES; Manufacturer: YAGEO; Part Number: RC0201FR-076K04L; Power Rating: 1/20W; Tolerance: 1%; Sort order: 322; Alternative component: Allowed; HasBeenBuilt: TBD; System: RLC; ComponentLink4Description: 4_X-information; ComponentLink1Description: 1_Datasheet; Package: 0201; ComponentLink2Description: 2_Product page; Creation date: 20250117; Source: RLC_UN1Q.SchLib; ComponentLink3Description: 3_X-information; ClassName: SMALL; Component Type: Resistor
footprint RES_0201_UN1Q (Chip Resistor, 0.6x0.3mm)
pins: 1, 2

## CMP-001-001016-1
designator L?, comment value 6.2nH  Manufacturer: Murata  (hidden comment: IND_0201_6n2_RF_MATCHING)
IND_RF_MATCHING; Part Number: LQP03TN6N2H02; Manufacturer Part Number: LQP03TN6N2H02D; Tolerance: 3%; Remark: RF matching, use part number; HasBeenBuilt: TBD; System: RLC; Sort order: 206; Package: 0201; ComponentLink2Description: 2_Product page; ComponentLink3Description: 3_X-information; Creation date: 20200101; Source: RLC_UN1Q.SchLib; ComponentLink1Description: 1_Datasheet; Operating temperature range: -55°C ~ 125°C; ClassName: SMALL; ComponentLink4Description: 4_X-information; RoHS: RoHS3; Component Type: Inductor
footprint IND_0201_UN1Q (Chip Resistor, 0.6x0.3mm, IPC High Density)
pins: 1, 2

## CMP-001-001047-4
designator A?, comment Part Number: BMI-S-203-F-20-R  Manufacturer: Laird  (hidden comment: SHIELD_FRAME_BMI-S-203-F-20-R)
SHIELD FRAME 26.2 x 26.2 x 2.0; Manufacturer: Leader Tech Inc.; System: EMECH; Sort order: 101; ComponentLink3Description: 3_X-information; RoHS: RoHS 3; ComponentLink2URL: https://www.laird.com/products/custom-precision-metal-stamping-emi-non-emi/board-level-shields/two-piece-board-level-shields/bmi-s-203-f-20-r; Dimensions WxLxH: 26.2 x 26.2 x 2.0; ComponentLink1Description: 1_Datasheet; ComponentLink1URL: https://www.laird.com/sites/default/files/bmi-s-203-r-20-sales.pdf; ComponentLink4Description: 4_X-information; ECCN: EAR99; ComponentLink2Description: 2_Product page; Manufacturer_Name: Laird; Creation Date: 20250207; Manufacturer Part Number: BMI-S-203-F-20-R; Component Type: Shield
footprint SHIELD_FRAME_BMI-S-203-F-20-R (SHIELD FRAME 26.2 x 26.2 x 2)
pins: 1, 2, 3, 4, 5, 6, 7, 8, 9, 10, 11, 12, 13, 14, 15, 16, 17, 18, 19, 20
text: 26.2 x 26.2 x 2.0 mm

## CMP-001-001048-2
designator B?, comment Part Number: BMI-S-203-C-20  Manufacturer: Laird  (hidden comment: SHIELD_COVER_BMI-S-203-C)  (mechanical)
Shield Cover 26.2 mm x 26.2 mm, Laird; System: EMECH; Sort order: 101; ClassName: BIG; ComponentLink2Description: 2_Product page; ComponentLink1Description: 1_Datasheet; ComponentLink1URL: https://www.laird.com/sites/default/files/bmi-s-203-r-20-sales.pdf; ComponentLink4Description: 4_X-information; Creation Date: 20240210; ComponentLink3Description: 3_X-information; Desc2: Shield Cover 26.2mm x 26.2mm; ComponentLink2URL: https://www.laird.com/products/custom-precision-metal-stamping-emi-non-emi/board-level-shields/two-piece-board-level-shields/bmi-s-203-c-20; Manufacturer Part Number: BMI-S-203-C-20; Component Type: Shield
footprint SHIELD_COVER_BMI-S-203-C-DUMMY (Footprint dummy)
text: Shield Cover; 26.2 mm x 26.2 mm

## CMP-001-001077-2
designator N?, comment Part Number: DEA070787LT-4002A1  Manufacturer: TDK  (hidden comment: LPF-777-787MHz_TDK_DEA070787LT-4002A1)
LPF 777-787MHz; Sort order: 701; System: RF; ComponentLink1URL: https://product.tdk.com/system/files/dam/doc/product/rf/rf/filter/catalog/rf_lpf_dea070787lt-4002a1_en.pdf; Operating temperature range: -40 ... +85C; ComponentLink3Description: 3_X-information; ComponentLink4Description: 4_X-information; ComponentLink2Description: 2_Product page; ComponentLink1Description: 1_Datasheet; Dimensions WxLxH: 0.55mm x 0.7mm x  0.3mm; Creation date: 20250214; Manufacturer Part Number: DEA070787LT-4002A1; Component Type: RF Discrete
footprint TDK_DEA070787LT-4002A1 (TDK DEA070787LT-4002A1)
pins: 1 IN "50 ohm terminal", 2 OUT "50 ohm terminal", 3 GND, 4 GND

## CMP-001-001090-1
designator C?, comment value 6.2pF  Part Number: GJM0335C1E6R2WB0  Manufacturer: Murata  (hidden comment: CAP_0201_6p2_GJM_RF_MATCHING)
CAP_RF_MATCHING; Manufacturer Part Number: GJM0335C1E6R8WB01D; Sort order: 202; Tolerance: +/-0.05pF; Temperature characteristics: C0G; System: RLC; HasBeenBuilt: False; Voltage: 25V; Remark: RF matching, use part number; ComponentLink1URL: https://www.murata.com/en-global/products/productdetail?partno=GJM0335C1E6R2WB01%23; Operating temperature range: -55 ... +125C; ComponentLink4Description: 4_X-information; Creation date: 20250219; Source: RLC_UN1Q.SchLib; Package: 0201; ComponentLink2Description: 2_Product page; ComponentLink3Description: 3_X-information; ECCN: EAR99; ComponentLink1Description: 1_Datasheet; ClassName: SMALL; RoHS: RoHS 3; Component Type: Capacitor
footprint CAP_0201_UN1Q (Chip Capacitor 0201)
pins: 1, 2

## CMP-001-001100-2
designator T?, comment value 2.5pF  Manufacturer: KYOCERA AVX  (hidden comment: TVS_0201_2.5pF_5V)
ESD Protection  TVS Diodes SMP Diode 0201 5vdc 2.5pf <12v clamp@1a; Part Number: GG0201052R542P; Voltage: 5.0V; Sort order: 402; System: Discrete; Package: 0201; Operating temperature range: -55 ... +125C; ComponentLink1Description: 1_Datasheet; ComponentLink1URL: https://datasheets.kyocera-avx.com/AVX-GiGuard.pdf; ComponentLink2Description: 2_Product page; ComponentLink3Description: 3_X-information; ComponentLink4Description: 4_X-information; Creation date: 20250310; ClassName: SMALL; Manufacturer Part Number: GG0201052R542P; Component Type: ESD & EMI
footprint TVS_0201_EZAEG (TVS 0201 0.04pF Panasonic EZAEG1A)
pins: 1, 2

## CMP-001-001112-2
designator Y?, comment value 32.768 kHz  Manufacturer: Wurth Elektronik  (hidden comment: XTAL_32.768k_3215_12.5pF_830009678)
Crystal 32.768 kHz 12.5 pF -40 to +85°C; Manufacturer: Wurth; HasBeenBuilt: no; Tolerance: ±20 ppm; Sort order: 455; ComponentLink3Description: 3_X-information; Dimensions WxLxH: 3.2 x 1.5 x 0.9 mm; Part Number: 830009678; RoHS: RoHS3; ECCN: EAR99; Package: 3215; Creation date: 20250314; Operating temperature range: -40 ... +85 °C; ComponentLink1Description: 1_Datasheet; ComponentLink4Description: 4_X-information; ComponentLink2Description: 2_Product page; ComponentLink1URL: https://www.we-online.com/components/products/datasheet/830009678.pdf; Manufacturer Part Number: 830009678; Component Type: Crystal & Oscillator
footprint XTAL_32k_830009678_Wurth
pins: 1, 2

## CMP-001-001142-13
designator U?, comment Manufacturer: Texas Instruments  (hidden comment: TPSM64406RCHR)
SMPS Module,  3V to 36V Input, 0.8V to 16V Dual Output, 3A+3A; Sort order: 453; System: IC; ClassName: BIG; ComponentLink1Description: 1_Datasheet; ComponentLink1URL: https://www.ti.com/lit/ds/symlink/tpsm64406.pdf?ts=1704232235164&ref_url=https%253A%252F%252Fwww.ti.com%252Fproduct%252FTPSM64406; ComponentLink2Description: 2_Product page; ComponentLink2URL: https://www.ti.com/product/TPSM64406?keyMatch=tpsm64406&tisearch=universal_search#design-development; Creation date: 20250407; Dimensions WxLxH: 6.6x7.2x2.1mm; Operating temperature range: -40C ... +125C; Package: QFN-FCMOD-28; Part Number: TPSM64406RCHR; ECCN: EAR99; Design Item ID: TPSM63602RDHR; ComponentLink3Description: 3_Package; ComponentLink3URL: https://www.ti.com/lit/ml/mpqf746/mpqf746.pdf?ts=1744029691982&ref_url=https%253A%252F%252Fwww.ti.com%252Fproduct%252FTPSM64406%253FkeyMatch%253Dtpsm64406%2526tisearch%253Duniversal_search; ComponentLink4Description: 4_X-information; RoHS: RoHS 3; Manufacturer Part Number: TPSM64406RCHR; Component Type: Power Supply
footprint QFN-FCMOD-28_TI (QFN-FCMOD-28 package from Texas Instruments)
pins: 1 PG1, 2 EN1 (in), 3 VOSNS1, 4 FB1, 5 VCC (power), 6 AGND (power), 7 RT, 8 SS_FB2, 9 COMP_VOSNS2, 10 EN2 (in), 11 CONFIG, 12 SYNCOUT_PG2, 13 PGND2 (power), 14 VIN2 (power), 15 CB2 (power), 16 SW2 (power), 17 SW2 (power), 18 VOUT2 (power), 19 VOUT2 (power), 20 VOUT1 (power), 21 VOUT1 (power), 22 SW1 (power), 23 SW1 (power), 24 CB1 (power), 25 VIN1 (power), 26 PGND1 (power), 27 SYNC (in), 28 EP (power)
text: NC

## CMP-001-001153-3
designator R?, comment value 31k6  (hidden comment: RES_0201_31k6)
RES; Manufacturer: YAGEO; Part Number: RC0201FR-0731K6L; Alternative component: Allowed; Tolerance: 1%; System: RLC; Power Rating: 1/20W; HasBeenBuilt: TBD; Sort order: 322; ComponentLink2Description: 2_Product page; ComponentLink1Description: 1_Datasheet; Package: 0201; ComponentLink3Description: 3_X-information; Creation date: 20250414; ClassName: SMALL; ComponentLink4Description: 4_X-information; Component Type: Resistor
footprint RES_0201_UN1Q (Chip Resistor, 0.6x0.3mm)
pins: 1, 2

## CMP-001-001154-3
designator R?, comment value 52k3  (hidden comment: RES_0201_52k3)
RES; Manufacturer: YAGEO; Part Number: RC0201FR-0752K3L; Alternative component: Allowed; Tolerance: 1%; System: RLC; Power Rating: 1/20W; HasBeenBuilt: TBD; Sort order: 322; ComponentLink2Description: 2_Product page; ComponentLink1Description: 1_Datasheet; Package: 0201; ComponentLink3Description: 3_X-information; Creation date: 20250716; ClassName: SMALL; ComponentLink4Description: 4_X-information; Component Type: Resistor
footprint RES_0201_UN1Q (Chip Resistor, 0.6x0.3mm)
pins: 1, 2

## CMP-001-001155-2
designator R?, comment value 9k76  (hidden comment: RES_0201_9k76)
RES; Part Number: RC0201FR-079K76L; Manufacturer: YAGEO; Power Rating: 1/20W; Sort order: 322; Tolerance: 1%; Alternative component: Allowed; HasBeenBuilt: TBD; System: RLC; Package: 0201; Creation date: 20250415; ComponentLink3Description: 3_X-information; ClassName: SMALL; ComponentLink1Description: 1_Datasheet; ComponentLink2Description: 2_Product page; ComponentLink4Description: 4_X-information; Component Type: Resistor
footprint RES_0201_UN1Q (Chip Resistor, 0.6x0.3mm)
pins: 1, 2

## CMP-001-001156-2
designator R?, comment value 7k15  (hidden comment: RES_0201_7k15)
RES; Manufacturer: YAGEO; Part Number: RC0201FR-077K15L; Power Rating: 1/20W; Alternative component: Allowed; Tolerance: 1%; HasBeenBuilt: TBD; Sort order: 322; System: RLC; ClassName: SMALL; ComponentLink1Description: 1_Datasheet; Package: 0201; ComponentLink4Description: 4_X-information; Creation date: 20250415; ComponentLink2Description: 2_Product page; ComponentLink3Description: 3_X-information; Component Type: Resistor
footprint RES_0201_UN1Q (Chip Resistor, 0.6x0.3mm)
pins: 1, 2

## CMP-001-001157-2
designator R?, comment value 121k  (hidden comment: RES_0201_121k)
RES; Manufacturer: YAGEO; Part Number: RC0201FR-07121KL; System: RLC; Tolerance: 1%; HasBeenBuilt: TBD; Sort order: 322; Power Rating: 1/20W; Alternative component: Allowed; ComponentLink4Description: 4_X-information; ComponentLink2Description: 2_Product page; ClassName: SMALL; ComponentLink1Description: 1_Datasheet; ComponentLink3Description: 3_X-information; Creation date: 20250415; Package: 0201; Component Type: Resistor
footprint RES_0201_UN1Q (Chip Resistor, 0.6x0.3mm)
pins: 1, 2

## CMP-001-001160-1
designator R?, comment value 42k2  (hidden comment: RES_0201_42k2)
RES; Manufacturer: YAGEO; Part Number: RC0201FR-0742K2L; Alternative component: Allowed; Tolerance: 1%; System: RLC; Power Rating: 1/20W; Sort order: 322; ComponentLink2Description: 2_Product page; ComponentLink1Description: 1_Datasheet; Package: 0201; ComponentLink3Description: 3_X-information; Creation date: 20250415; ClassName: SMALL; ComponentLink4Description: 4_X-information; Component Type: Resistor
footprint RES_0201_UN1Q (Chip Resistor, 0.6x0.3mm)
pins: 1, 2

## CMP-001-001161-1
designator R?, comment value 13k3  (hidden comment: RES_0201_13k3)
RES; Part Number: RC0201FR-0713K3L; Manufacturer: YAGEO; Power Rating: 1/20W; Sort order: 322; Tolerance: 1%; Alternative component: Allowed; HasBeenBuilt: TBD; System: RLC; Package: 0201; Creation date: 20250415; ComponentLink3Description: 3_X-information; ClassName: SMALL; ComponentLink1Description: 1_Datasheet; ComponentLink2Description: 2_Product page; ComponentLink4Description: 4_X-information; Component Type: Resistor
footprint RES_0201_UN1Q (Chip Resistor, 0.6x0.3mm)
pins: 1, 2

## CMP-001-001198-7
designator N?, comment Manufacturer: Qorvo  (hidden comment: QPL9095)
Ultra Low-Noise, Bypass LNA; Manufacturer Part Number: QPL9095SR; Sort order: 721; System: RF; ComponentLink4Description: 4_X-information; ComponentLink2URL: https://www.qorvo.com/products/p/QPL9095; ClassName: BIG; ComponentLink1Description: 1_Datasheet; Operating temperature range: -40°C ... 105°C; Package: DFN50; ComponentLink1URL: https://www.qorvo.com/products/d/da006183; Creation Date: 20240607; ComponentLink3Description: 3_X-information; ComponentLink3URL: https://www.qorvo.com/products/d/da006076; ComponentLink2Description: 2_Product page; Dimensions WxLxH: 2 x 2 x 0.95; Part Number: QPL9095; Component Type: RF IC
footprint DFN8_P50_200x200x95_QORVO (DFN8 2x2mm Pitch 0.5 mm)
pins: 1 GND, 2 RF_IN, 3 N/C, 4 VBYP, 5 VSD, 6 GND, 7 RF_OUT, 8 VDD, 9 GND

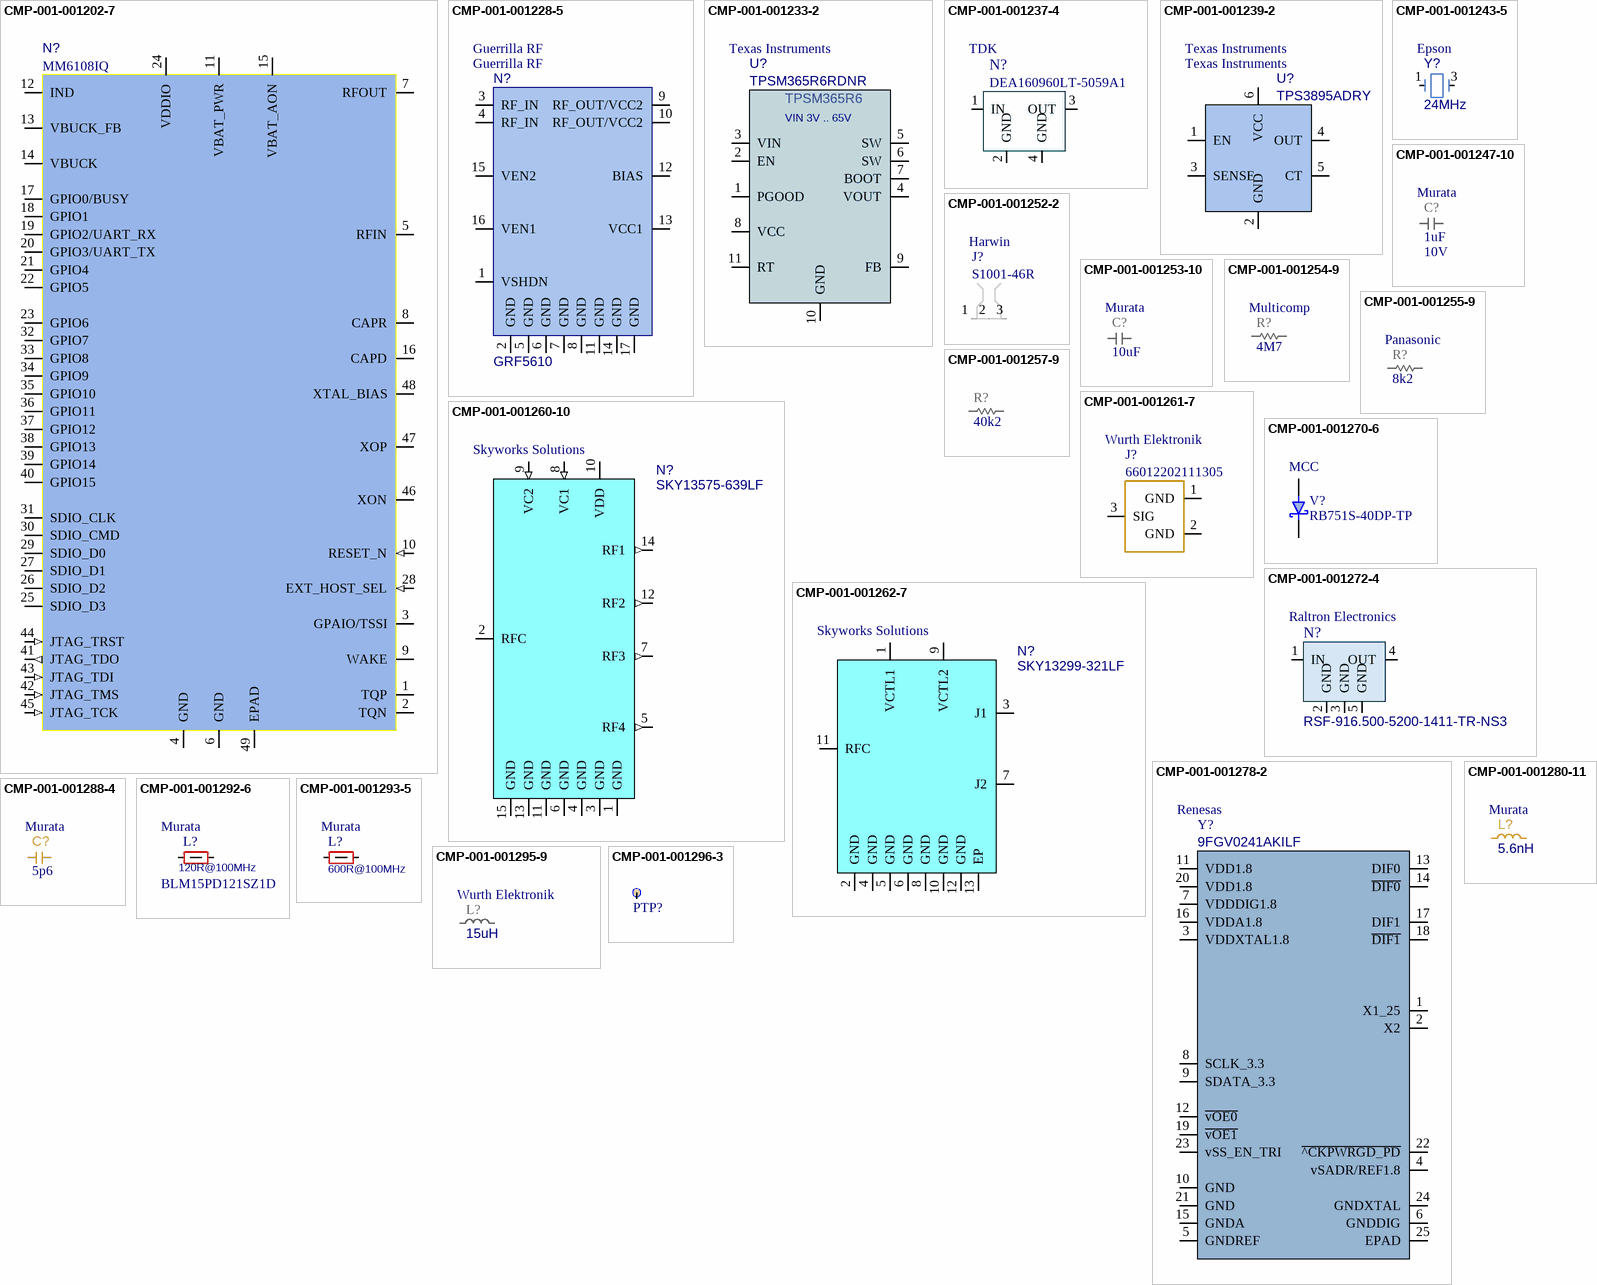
[diagram p6: symbols CMP-001-001202-7 to CMP-001-001296-3]

## CMP-001-001202-7
designator N?, comment Part Number: MM6108IQ  (hidden comment: MM6108)
IEEE 802.11ah Sub-1 GHz HaLow SoC; Manufacturer: Morse Micro; Sort order: 721; System: RF; ComponentLink1URL: https://www.morsemicro.com/download/ds-mm6108-advanced-datasheet-ds102/; ComponentLink3Description: 3_X-information; Operating temperature range: -40 ... +85C; Dimensions WxLxH: 6.1 x 6.1 x 0.9 mm; Package: QFN48; ComponentLink4URL: https://www.morsemicro.com/wp-content/uploads/2023/02/Morse-Micro_MM6108_Product-Brief_v03-5.pdf; ClassName: BIG; Creation Date: 20240607; ComponentLink2Description: 2_Product page; ComponentLink4Description: 4_X-information; ComponentLink1Description: 1_Datasheet; ComponentLink3URL: https://www.morsemicro.com/download/mm6108-mf08651-us-bailey-v13_2-active/; Component Type: RF IC
footprint MM6108-Footprint (QFN48, 6 x 6, Pitch 0.4 mm)
pins: 1 TQP "ADC Test Data Out to FPGA (500MHz)", 2 TQN "ADC Test Data Out to FPGA (500MHz)", 3 GPAIO/TSSI "ADC Test Data Out to FPGA (500MHz)", 4 GND (power) "ADC Test Data Out to FPGA (500MHz)", 5 RFIN, 6 GND (power), 7 RFOUT, 8 CAPR (power), 9 WAKE, 10 RESET_N (in), 11 VBAT_PWR (power), 12 IND, 13 VBUCK_FB (power), 14 VBUCK (power), 15 VBAT_AON (power), 16 CAPD (power), 17 GPIO0/BUSY (io), 18 GPIO1 (io), 19 GPIO2/UART_RX (io), 20 GPIO3/UART_TX (io), 21 GPIO4 (io), 22 GPIO5 (io), 23 GPIO6 (io), 24 VDDIO (power), 25 SDIO_D3 (io), 26 SDIO_D2 (io), 27 SDIO_D1 (io), 28 EXT_HOST_SEL (in), 29 SDIO_D0 (io), 30 SDIO_CMD (io), 31 SDIO_CLK (io), 32 GPIO7 (io), 33 GPIO8 (io), 34 GPIO9 (io), 35 GPIO10 (io), 36 GPIO11 (io), 37 GPIO12 (io), 38 GPIO13 (io), 39 GPIO14 (io), 40 GPIO15 (io), 41 JTAG_TDO (out), 42 JTAG_TMS (in), 43 JTAG_TDI (in), 44 JTAG_TRST (in), 45 JTAG_TCK (in), 46 XON, 47 XOP, 48 XTAL_BIAS, 49 EPAD (power)

## CMP-001-001228-5
designator N?, comment Manufacturer: Guerrilla RF  (hidden comment: GRF5610)
POWER AMPLIFIER 865 to 928 MHz; Manufacturer Part Number: GRF5610-EVB; Sort order: 731; System: RF; ComponentLink4Description: 4_X-information; Creation Date: 20240612; ClassName: BIG; Dimensions WxLxH: 3 x 3 x 0.9; ComponentLink1URL: https://www.guerrilla-rf.com/products/DataSheet?sku=5610&file_name=GRF5610DS.pdf; Package: QFN16; ComponentLink2Description: 2_Product page; Part Number: GRF5610; ComponentLink1Description: 1_Datasheet; Operating temperature range: -40 ... +85C; ComponentLink2URL: https://www.guerrilla-rf.com/products/detail/sku/GRF5610; ComponentLink3Description: 3_X-information; Manufacturer Part Number: GRF5610; Component Type: RF IC
footprint QFN16_300x300_Guerrilla (QFN16 Guerrilla RF)
pins: 1 VSHDN "Digital Shutdown Pin", 2 GND, 3 RF_IN "RF Input", 4 RF_IN "RF Input", 5 GND, 6 GND, 7 GND, 8 GND, 9 RF_OUT/VCC2 "PA Output/Bias Voltage", 10 RF_OUT/VCC2 "PA Output/Bias Voltage", 11 GND, 12 BIAS "Bias Circuit Supply", 13 VCC1 "Bias Voltage", 14 GND, 15 VEN2 "Enable2 Voltage Input", 16 VEN1 "Enable1 Voltage Input", 17 GND

## CMP-001-001233-2
designator U?, comment TPSM365R6RDNR  Manufacturer: Texas Instruments
3V to 65V Input 600mA Buck converter module; Manufacturer: TI; Sort order: 451; System: IC; ClassName: BIG; ComponentLink1Description: 1_Datasheet; ComponentLink1URL: https://www.ti.com/lit/ds/symlink/tpsm365r6.pdf?ts=1706523561138&ref_url=https%253A%252F%252Fwww.ti.com%252Fproduct%252FTPSM365R6; ComponentLink2Description: 2_Product page; ComponentLink2URL: https://www.ti.com/product/TPSM365R6?keyMatch=TPSM365R6RDNR&tisearch=search-everything&usecase=OPN; ComponentLink3Description: 3_X-information; ComponentLink4Description: 4_X-information; Creation date: 20240130; Dimensions WxLxH: 3.5x4.5x2.1mm; Operating temperature range: -40 .... +125 °C; Package: QFN-FCMOD; Part Number: TPSM365R6RDNR; Manufacturer Part Number: TPSM365R6RDNR; Component Type: Power Supply
footprint QFN-11_FCMOD_TI (QFN-FCMOD 11)
pins: 1 PGOOD (oc), 2 EN, 3 VIN, 4 VOUT, 5 SW, 6 SW, 7 BOOT, 8 VCC, 9 FB, 10 GND, 11 RT
text: TPSM365R6; VIN 3V .. 65V

## CMP-001-001237-4
designator N?, comment Part Number: DEA160960LT-5059A1  Manufacturer: TDK  (hidden comment: LPF-698-960MHz_TDK_DEA160960LT-5059A1)
LPF 698-960MHz; System: RF; Sort order: 701; ComponentLink3Description: 3_X-information; Dimensions WxLxH: 0.8mm x 1.6mm x  0.6mm; ComponentLink2Description: 2_Product page; Operating temperature range: -40 ... +90C; ComponentLink1URL: https://product.tdk.com/en/search/rf/rf/filter/info?part_no=DEA160960LT-5059A1; Creation date: 20240612; ComponentLink1Description: 1_Datasheet; ComponentLink4Description: 4_X-information; Package: 0603; ComponentLink2URL: https://product.tdk.com/system/files/dam/doc/product/rf/rf/filter/catalog/rf_lpf_dea160960lt-5059a1_en.pdf; Manufacturer Part Number: DEA160960LT-5059A1; Component Type: RF Discrete
footprint TDK_0603_DEA16XXX (TDK 0603 DEA16XXX 3 or 4 pin filters)
pins: 1 IN "50 ohm terminal", 2 GND, 3 OUT "50 ohm terminal", 4 GND

## CMP-001-001239-2
designator U?, comment Part Number: TPS3895ADRY  Manufacturer: Texas Instruments  (hidden comment: TPS3895A)
Adj. Voltage Monitor (>500mV), Push-Pull, Adj. delay; Manufacturer Part Number: TPS3895ADRYT; Manufacturer Part Number: TPS3895ADRYR; HasBeenBuilt: Cmod2_01; Sort order: 501; System: IC; ComponentLink1Description: 1_Datasheet; ComponentLink1URL: https://www.ti.com/lit/ds/symlink/tps3895.pdf?ts=1666337566877&ref_url=https%253A%252F%252Fwww.ti.com%252Fproduct%252FTPS3895; ComponentLink2Description: 2_Product page; ComponentLink2URL: https://www.ti.com/product/TPS3895; ComponentLink3Description: 3_X-information; ComponentLink4Description: 4_X-information; Creation date: 20221021; Dimensions WxLxH: 1.05 x 1.5 x 0.6 mm; Package: USON6; Component Type: Power Supply
footprint SON6_TPS3895ADRY_TI (6-UFDFN)
pins: 1 EN, 2 GND, 3 SENSE, 4 OUT, 5 CT, 6 VCC

## CMP-001-001243-5
designator Y?, comment value 24MHz  Manufacturer: Epson  (hidden comment: XTAL_24M_10ppm_9pF_+105C)
Crystal 24 MHz ±10ppm 9pF 40Ohms 4-SMD; Part Number: TSX-3225 24.0000MF20G-AC3; Tolerance: +/-10ppm; Sort order: 455; System: Discrete; Operating temperature range: -40 ... +105C; Dimensions WxLxH: 3.2 x 2.5 x 0.6mm; Manufacturer: EPSON; ComponentLink1Description: 1_Datasheet; ComponentLink1URL: https://support.epson.biz/td/api/doc_check.php?dl=brief_TSX-3225&lang=en; ComponentLink2Description: 2_Product page; ComponentLink3Description: 3_X-information; ComponentLink4Description: 4_X-information; Creation date: 20240430; Manufacturer Part Number: TSX-3225 24.0000MF20G-AC3; Component Type: Crystal & Oscillator
footprint XTAL_3225_EPSON (Epson TSX-3225 3.2mm x 2.5mm)
pins: 1, 2 GND hidden to GND, 3, 4 GND hidden to GND